# Altium schematic symbol library NXP Semiconductors Cortex-M3.SchLib: 52 symbols (part 6 of 7)
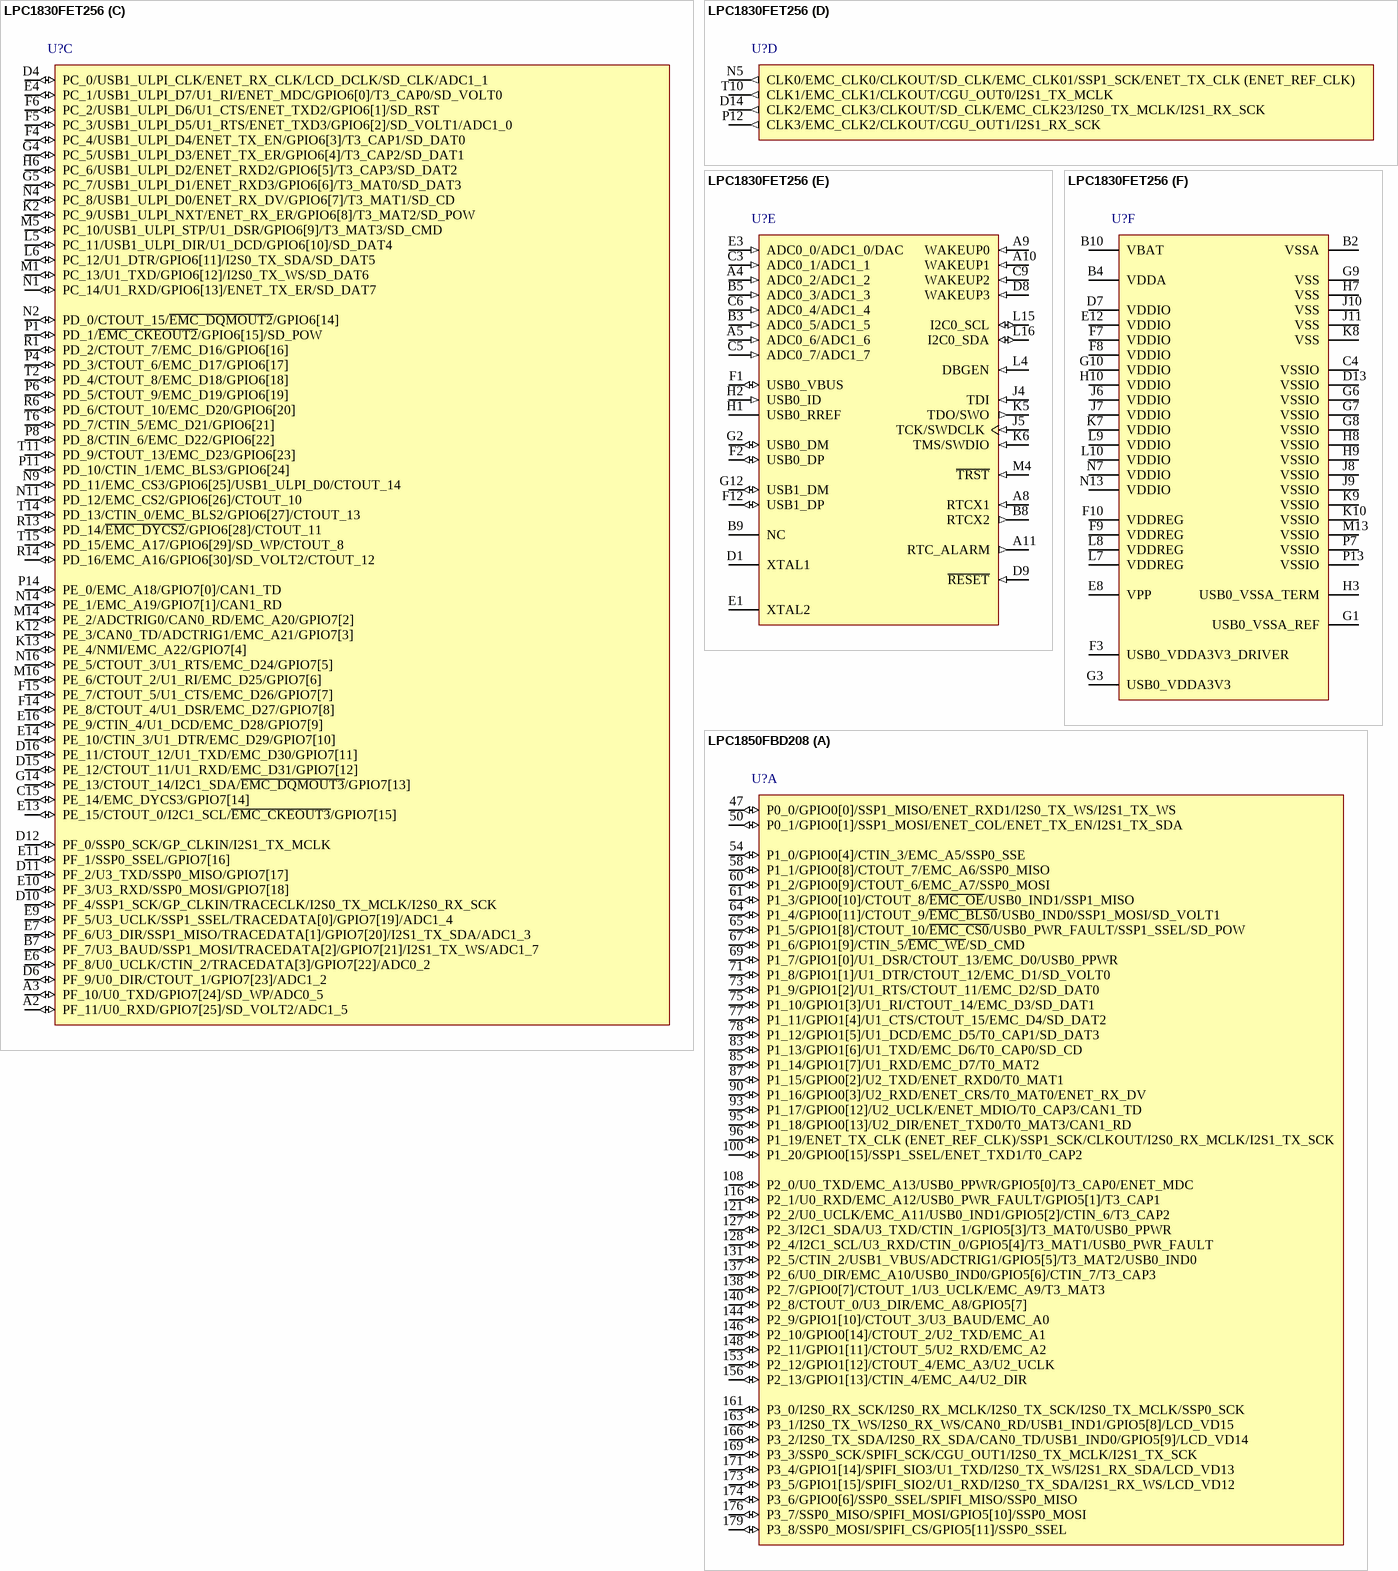
[diagram p51: symbols LPC1830FET256 to LPC1850FBD208]

## LPC1830FET256
designator U?
32-bit ARM Cortex-M3 MCU, 200 kB SRAM, 2 HS USB, on-chip PHY, Ethernet, CAN, AES, SPIFI, SCT, 256-Pin LBGA; PartNumber: LPC1830FET256; fmax: 180 MHz; SRAM: 200 kB; GPIOs: 164; USB: 2; UART: 4; I2C: 1; PLL: Y; ADC channels: 8; VDD (min): 2.2 V; VDD (typ): 3.3 V; VDD (max): 3.6 V; DatasheetVersion: Rev. 3.1, Dec-2011; PackageVersion: Aug-2005; PackageReference: SOT740-2; PackageDescription: LBGA256: Plastic Low Profile Ball Grid Array Package; 256 Balls; Body 17 x 17 x 1 mm; CAN: 2; SPI: 1; PWM: 1; Timers: 4; Code_JEDEC: MO-192; ComponentLink1Description: Manufacturer URL; ComponentLink1URL: http://www.nxp.com/; ComponentLink2Description: Datasheet; ComponentLink2URL: http://www.nxp.com/documents/data_sheet/LPC1850_30_20_10.pdf
footprint SOT740-2 (BGA, 256-Leads, Body 17x17mm, Pitch 1mm)
part A pins: A1 P4_1/GPIO2[1]/CTOUT_1/LCD_VD0/LCD_VD19/U3_TXD/ENET_COL/ADC0_1 (io), A15 P3_4/GPIO1[14]/SPIFI_SIO3/U1_TXD/I2S0_TX_WS/I2S1_RX_SDA/LCD_VD13 (io), B1 P4_4/GPIO2[4]/CTOUT_2/LCD_VD1/LCD_VD20/U3_DIR/DAC (io), B13 P3_6/GPIO0[6]/SSP0_SSEL/SPIFI_MISO/SSP0_MISO (io), B14 P3_3/SSP0_SCK/SPIFI_SCK/CGU_OUT1/I2S0_TX_MCLK/I2S1_TX_SCK (io), C1 P4_6/GPIO2[6]/CTOUT_4/LCD_ENAB/LCDM (io), C2 P4_3/GPIO2[3]/CTOUT_3/LCD_VD2/LCD_VD21/U3_BAUD/ADC0_0 (io), C10 P3_8/SSP0_MOSI/SPIFI_CS/GPIO5[11]/SSP0_SSEL (io), C11 P3_7/SSP0_MISO/SPIFI_MOSI/GPIO5[10]/SSP0_MOSI (io), C12 P3_5/GPIO1[15]/SPIFI_SIO2/U1_RXD/I2S0_TX_SDA/I2S1_RX_WS/LCD_VD12 (io), C16 P2_13/GPIO1[13]/CTIN_4/EMC_A4/U2_DIR (io), D2 P4_5/GPIO2[5]/CTOUT_5/LCD_FP (io), D3 P4_2/GPIO2[2]/CTOUT_0/LCD_VD3/LCD_VD12/U3_RXD (io), D5 P4_0/GPIO2[0]/MCOA0/NMI/LCD_VD13/U3_UCLK (io), E2 P4_8/CTIN_5/LCD_VD9/GPIO5[12]/LCD_VD22/CAN1_TD (io), E15 P2_12/GPIO1[12]/CTOUT_4/EMC_A3/U2_UCLK (io), F11 P3_2/I2S0_TX_SDA/I2S0_RX_SDA/CAN0_TD/USB1_IND0/GPIO5[9]/LCD_VD14 (io), F13 P3_0/I2S0_RX_SCK/I2S0_RX_MCLK/I2S0_TX_SCK/I2S0_TX_MCLK/SSP0_SCK (io), F16 P2_11/GPIO1[11]/CTOUT_5/U2_RXD/EMC_A2 (io), G11 P3_1/I2S0_TX_WS/I2S0_RX_WS/CAN0_RD/USB1_IND1/GPIO5[8]/LCD_VD15 (io), G16 P2_10/GPIO0[14]/CTOUT_2/U2_TXD/EMC_A1 (io), H4 P4_7/LCD_DCLK/GP_CLKIN/I2S1_TX_SCK/I2S0_TX_SCK (io), H14 P2_7/GPIO0[7]/CTOUT_1/U3_UCLK/EMC_A9/T3_MAT3 (io), H16 P2_9/GPIO1[10]/CTOUT_3/U3_BAUD/EMC_A0 (io), J12 P2_3/I2C1_SDA/U3_TXD/CTIN_1/GPIO5[3]/T3_MAT0/USB0_PPWR (io), J16 P2_8/CTOUT_0/U3_DIR/EMC_A8/GPIO5[7] (io), K11 P2_4/I2C1_SCL/U3_RXD/CTIN_0/GPIO5[4]/T3_MAT1/USB0_PWR_FAULT (io), K14 P2_5/CTIN_2/USB1_VBUS/ADCTRIG1/GPIO5[5]/T3_MAT2/USB0_IND0 (io), K16 P2_6/U0_DIR/EMC_A10/USB0_IND0/GPIO5[6]/CTIN_7/T3_CAP3 (io), L2 P4_9/CTIN_6/LCD_VD11/GPIO5[13]/LCD_VD15/CAN1_RD (io), L3 P0_0/GPIO0[0]/SSP1_MISO/ENET_RXD1/I2S0_TX_WS/I2S1_TX_WS (io), M2 P0_1/GPIO0[1]/SSP1_MOSI/ENET_COL/ENET_TX_EN/I2S1_TX_SDA (io), M3 P4_10/CTIN_2/LCD_VD10/GPIO5[14]/LCD_VD14 (io), M7 P1_16/GPIO0[3]/U2_RXD/ENET_CRS/T0_MAT0/ENET_RX_DV (io), M8 P1_17/GPIO0[12]/U2_UCLK/ENET_MDIO/T0_CAP3/CAN1_TD (io), M10 P1_20/GPIO0[15]/SSP1_SSEL/ENET_TXD1/T0_CAP2 (io), M11 P1_19/ENET_TX_CLK (ENET_REF_CLK)/SSP1_SCK/CLKOUT/I2S0_RX_MCLK/I2S1_TX_SCK (io), M15 P2_2/U0_UCLK/EMC_A11/USB0_IND1/GPIO5[2]/CTIN_6/T3_CAP2 (io), N12 P1_18/GPIO0[13]/U2_DIR/ENET_TXD0/T0_MAT3/CAN1_RD (io), N15 P2_1/U0_RXD/EMC_A12/USB0_PWR_FAULT/GPIO5[1]/T3_CAP1 (io), P2 P1_0/GPIO0[4]/CTIN_3/EMC_A5/SSP0_SSE (io), P5 P1_3/GPIO0[10]/CTOUT_8/~{EMC_OE}/USB0_IND1/SSP1_MISO (io), R2 P1_1/GPIO0[8]/CTOUT_7/EMC_A6/SSP0_MISO (io), R3 P1_2/GPIO0[9]/CTOUT_6/EMC_A7/SSP0_MOSI (io), R5 P1_5/GPIO1[8]/CTOUT_10/~{EMC_CS0}/USB0_PWR_FAULT/SSP1_SSEL/SD_POW (io), R7 P1_8/GPIO1[1]/U1_DTR/CTOUT_12/EMC_D1/SD_VOLT0 (io), R8 P1_10/GPIO1[3]/U1_RI/CTOUT_14/EMC_D3/SD_DAT1 (io), R9 P1_12/GPIO1[5]/U1_DCD/EMC_D5/T0_CAP1/SD_DAT3 (io), R10 P1_13/GPIO1[6]/U1_TXD/EMC_D6/T0_CAP0/SD_CD (io), R11 P1_14/GPIO1[7]/U1_RXD/EMC_D7/T0_MAT2 (io), T3 P1_4/GPIO0[11]/CTOUT_9/~{EMC_BLS0}/USB0_IND0/SSP1_MOSI/SD_VOLT1 (io), T4 P1_6/GPIO1[9]/CTIN_5/~{EMC_WE}/SD_CMD (io), T5 P1_7/GPIO1[0]/U1_DSR/CTOUT_13/EMC_D0/USB0_PPWR (io), T7 P1_9/GPIO1[2]/U1_RTS/CTOUT_11/EMC_D2/SD_DAT0 (io), T9 P1_11/GPIO1[4]/U1_CTS/CTOUT_15/EMC_D4/SD_DAT2 (io), T12 P1_15/GPIO0[2]/U2_TXD/ENET_RXD0/T0_MAT1 (io), T16 P2_0/U0_TXD/EMC_A13/USB0_PPWR/GPIO5[0]/T3_CAP0/ENET_MDC (io)
part B pins: A6 PB_6/USB1_ULPI_D3/LCD_VD13/GPIO5[26]/CTIN_6/LCD_VD19/ADC0_6 (io), A7 P7_5/GPIO3[13]/CTOUT_12/LCD_VD8/LCD_VD23/TRACEDATA[1]/ADC0_3 (io), A12 PB_5/USB1_ULPI_D4/LCD_VD14/GPIO5[25]/CTIN_7/LCD_PWR (io), A13 PB_3/USB1_ULPI_D6/LCD_VD20/GPIO5[23]/CTOUT_8 (io), A14 PB_1/USB1_ULPI_DIR/LCD_VD22/GPIO5[21]/CTOUT_6 (io), A16 P7_2/GPIO3[10]/CTIN_4/I2S0_TX_SDA/LCD_VD18/LCD_VD6/U2_RXD (io), B6 P7_7/GPIO3[15]/CTOUT_8/LCD_PWR/TRACEDATA[3]/ENET_MDC/ADC1_6 (io), B11 PB_4/USB1_ULPI_D5/LCD_VD15/GPIO5[24]/CTIN_5 (io), B12 PB_2/USB1_ULPI_D7/LCD_VD21/GPIO5[22]/CTOUT_7 (io), B15 PB_0/CTOUT_10/LCD_VD23/GPIO5[20] (io), B16 P7_0/GPIO3[8]/CTOUT_14/LCD_LE (io), C7 P7_6/GPIO3[14]/CTOUT_11/LCD_LP/TRACEDATA[2] (io), C8 P7_4/GPIO3[12]/CTOUT_13/LCD_VD16/LCD_VD4/TRACEDATA[0]/ADC0_4 (io), C13 P7_3/GPIO3[11]/CTIN_3/LCD_VD17/LCD_VD5 (io), C14 P7_1/GPIO3[9]/CTOUT_15/I2S0_TX_WS/LCD_VD19/LCD_VD7/U2_TXD (io), E5 P8_0/GPIO4[0]/USB0_PWR_FAULT/MCI2/T0_MAT0 (io), G13 PA_4/CTOUT_9/EMC_A23/GPIO5[19] (io), G15 P6_12/GPIO2[8]/CTOUT_7/~{EMC_DQMOUT0} (io), H5 P8_1/GPIO4[1]/USB0_IND1/MCI1/T0_MAT1 (io), H11 PA_3/GPIO4[10]/QEI_PHA (io), H12 P6_11/GPIO3[7]/~{EMC_CKEOUT0}/T2_MAT3 (io), H13 P6_8/EMC_A14/USB0_IND0/GPIO5[16]/T2_MAT1 (io), H15 P6_10/GPIO3[6]/MCABORT/~{EMC_DQMOUT1} (io), J1 P8_5/GPIO4[5]/USB1_ULPI_D0/LCD_VD6/LCD_VD8/T0_CAP1 (io), J2 P8_4/GPIO4[4]/USB1_ULPI_D1/LCD_VD7/LCD_VD16/T0_CAP0 (io), J3 P8_3/GPIO4[3]/USB1_ULPI_D2/LCD_VD12/LCD_VD19/T0_MAT3 (io), J13 P6_7/EMC_A15/USB0_IND1/GPIO5[15]/T2_MAT0 (io), J14 PA_1/GPIO4[8]/QEI_IDX/U2_TXD (io), J15 P6_9/GPIO3[5]/EMC_DYCS0/T2_MAT2 (io), K1 P8_7/GPIO4[7]/USB1_ULPI_STP/LCD_VD4/LCD_PWR/T0_CAP3 (io), K3 P8_6/GPIO4[6]/USB1_ULPI_NXT/LCD_VD5/LCD_LP/T0_CAP2 (io), K4 P8_2/GPIO4[2]/USB0_IND0/MCI0/T0_MAT2 (io), K15 PA_2/GPIO4[9]/QEI_PHB/U2_RXD (io), L1 P8_8/USB1_ULPI_CLK/CGU_OUT0/I2S1_TX_MCLK (io), L11 P9_6/GPIO4[11]/MCOB1/USB1_PWR_FAULT/ENET_COL/U0_RXD (io), L12 PA_0/I2S1_RX_MCLK/CGU_OUT1 (io), L13 P6_2/GPIO3[1]/~{EMC_CKEOUT1}/U0_DIR/I2S0_RX_SDA/T2_CAP1 (io), L14 P6_6/GPIO0[5]/EMC_BLS1/USB0_PWR_FAULT/T2_CAP3 (io), M6 P9_3/GPIO4[15]/MCOA0/USB1_IND1/ENET_RXD2/U3_TXD (io), M9 P9_5/MCOA1/USB1_PPWR/GPIO5[18]/ENET_TXD3/U0_TXD (io), M12 P6_0/I2S0_RX_MCLK/I2S0_RX_SCK (io), N3 P5_0/GPIO2[9]/MCOB2/EMC_D12/U1_DSR/T1_CAP0/T1_CAP0 (io), N6 P9_1/GPIO4[13]/MCOA2/I2S0_TX_WS/ENET_RX_ER/SSP0_MISO (io), N8 P9_2/GPIO4[14]/MCOB2/I2S0_TX_SDA/ENET_RXD3/SSP0_MOSI (io), N10 P9_4/MCOB0/USB1_IND0/GPIO5[17]/ENET_TXD2/U3_RXD (io), P3 P5_1/GPIO2[10]/MCI2/EMC_D13/U1_DTR/T1_CAP1 (io), P9 P5_4/GPIO2[13]/MCOB0/EMC_D8/U1_CTS/T1_MAT0 (io), P10 P5_5/GPIO2[14]/MCOA1/EMC_D9/U1_DCD/T1_MAT1 (io), P15 P6_3/GPIO3[2]/USB0_PPWR/EMC_CS1/T2_CAP2 (io), P16 P6_5/GPIO3[4]/CTOUT_6/U0_RXD/~{EMC_RAS} (io), R4 P5_2/GPIO2[11]/MCI1/EMC_D14/U1_RTS/T1_CAP2 (io), R12 P5_7/GPIO2[7]/MCOA2/EMC_D11/U1_RXD/T1_MAT3 (io), R15 P6_1/GPIO3[0]/~{EMC_DYCS1}/U0_UCLK/I2S0_RX_WS/T2_CAP0 (io), R16 P6_4/GPIO3[3]/CTIN_6/U0_TXD/~{EMC_CAS} (io), T1 P9_0/GPIO4[12]/MCABORT/ENET_CRS/SSP0_SSEL (io), T8 P5_3/GPIO2[12]/MCI0/EMC_D15/U1_RI/T1_CAP3 (io), T13 P5_6/GPIO2[15]/MCOB1/EMC_D10/U1_TXD/T1_MAT2 (io)
part C pins: A2 PF_11/U0_RXD/GPIO7[25]/SD_VOLT2/ADC1_5 (io), A3 PF_10/U0_TXD/GPIO7[24]/SD_WP/ADC0_5 (io), B7 PF_7/U3_BAUD/SSP1_MOSI/TRACEDATA[2]/GPIO7[21]/I2S1_TX_WS/ADC1_7 (io), C15 PE_14/EMC_DYCS3/GPIO7[14] (io), D4 PC_0/USB1_ULPI_CLK/ENET_RX_CLK/LCD_DCLK/SD_CLK/ADC1_1 (io), D6 PF_9/U0_DIR/CTOUT_1/GPIO7[23]/ADC1_2 (io), D10 PF_4/SSP1_SCK/GP_CLKIN/TRACECLK/I2S0_TX_MCLK/I2S0_RX_SCK (io), D11 PF_2/U3_TXD/SSP0_MISO/GPIO7[17] (io), D12 PF_0/SSP0_SCK/GP_CLKIN/I2S1_TX_MCLK (io), D15 PE_12/CTOUT_11/U1_RXD/EMC_D31/GPIO7[12] (io), D16 PE_11/CTOUT_12/U1_TXD/EMC_D30/GPIO7[11] (io), E4 PC_1/USB1_ULPI_D7/U1_RI/ENET_MDC/GPIO6[0]/T3_CAP0/SD_VOLT0 (io), E6 PF_8/U0_UCLK/CTIN_2/TRACEDATA[3]/GPIO7[22]/ADC0_2 (io), E7 PF_6/U3_DIR/SSP1_MISO/TRACEDATA[1]/GPIO7[20]/I2S1_TX_SDA/ADC1_3 (io), E9 PF_5/U3_UCLK/SSP1_SSEL/TRACEDATA[0]/GPIO7[19]/ADC1_4 (io), E10 PF_3/U3_RXD/SSP0_MOSI/GPIO7[18] (io), E11 PF_1/SSP0_SSEL/GPIO7[16] (io), E13 PE_15/CTOUT_0/I2C1_SCL/~{EMC_CKEOUT3}/GPIO7[15] (io), E14 PE_10/CTIN_3/U1_DTR/EMC_D29/GPIO7[10] (io), E16 PE_9/CTIN_4/U1_DCD/EMC_D28/GPIO7[9] (io), F4 PC_4/USB1_ULPI_D4/ENET_TX_EN/GPIO6[3]/T3_CAP1/SD_DAT0 (io), F5 PC_3/USB1_ULPI_D5/U1_RTS/ENET_TXD3/GPIO6[2]/SD_VOLT1/ADC1_0 (io), F6 PC_2/USB1_ULPI_D6/U1_CTS/ENET_TXD2/GPIO6[1]/SD_RST (io), F14 PE_8/CTOUT_4/U1_DSR/EMC_D27/GPIO7[8] (io), F15 PE_7/CTOUT_5/U1_CTS/EMC_D26/GPIO7[7] (io), G4 PC_5/USB1_ULPI_D3/ENET_TX_ER/GPIO6[4]/T3_CAP2/SD_DAT1 (io), G5 PC_7/USB1_ULPI_D1/ENET_RXD3/GPIO6[6]/T3_MAT0/SD_DAT3 (io), G14 PE_13/CTOUT_14/I2C1_SDA/~{EMC_DQMOUT3}/GPIO7[13] (io), H6 PC_6/USB1_ULPI_D2/ENET_RXD2/GPIO6[5]/T3_CAP3/SD_DAT2 (io), K2 PC_9/USB1_ULPI_NXT/ENET_RX_ER/GPIO6[8]/T3_MAT2/SD_POW (io), K12 PE_3/CAN0_TD/ADCTRIG1/EMC_A21/GPIO7[3] (io), K13 PE_4/NMI/EMC_A22/GPIO7[4] (io), L5 PC_11/USB1_ULPI_DIR/U1_DCD/GPIO6[10]/SD_DAT4 (io), L6 PC_12/U1_DTR/GPIO6[11]/I2S0_TX_SDA/SD_DAT5 (io), M1 PC_13/U1_TXD/GPIO6[12]/I2S0_TX_WS/SD_DAT6 (io), M5 PC_10/USB1_ULPI_STP/U1_DSR/GPIO6[9]/T3_MAT3/SD_CMD (io), M14 PE_2/ADCTRIG0/CAN0_RD/EMC_A20/GPIO7[2] (io), M16 PE_6/CTOUT_2/U1_RI/EMC_D25/GPIO7[6] (io), N1 PC_14/U1_RXD/GPIO6[13]/ENET_TX_ER/SD_DAT7 (io), N2 PD_0/CTOUT_15/~{EMC_DQMOUT2}/GPIO6[14] (io), N4 PC_8/USB1_ULPI_D0/ENET_RX_DV/GPIO6[7]/T3_MAT1/SD_CD (io), N9 PD_11/EMC_CS3/GPIO6[25]/USB1_ULPI_D0/CTOUT_14 (io), N11 PD_12/EMC_CS2/GPIO6[26]/CTOUT_10 (io), N14 PE_1/EMC_A19/GPIO7[1]/CAN1_RD (io), N16 PE_5/CTOUT_3/U1_RTS/EMC_D24/GPIO7[5] (io), P1 PD_1/~{EMC_CKEOUT2}/GPIO6[15]/SD_POW (io), P4 PD_3/CTOUT_6/EMC_D17/GPIO6[17] (io), P6 PD_5/CTOUT_9/EMC_D19/GPIO6[19] (io), P8 PD_8/CTIN_6/EMC_D22/GPIO6[22] (io), P11 PD_10/CTIN_1/EMC_BLS3/GPIO6[24] (io), P14 PE_0/EMC_A18/GPIO7[0]/CAN1_TD (io), R1 PD_2/CTOUT_7/EMC_D16/GPIO6[16] (io), R6 PD_6/CTOUT_10/EMC_D20/GPIO6[20] (io), R13 PD_14/~{EMC_DYCS2}/GPIO6[28]/CTOUT_11 (io), R14 PD_16/EMC_A16/GPIO6[30]/SD_VOLT2/CTOUT_12 (io), T2 PD_4/CTOUT_8/EMC_D18/GPIO6[18] (io), T6 PD_7/CTIN_5/EMC_D21/GPIO6[21] (io), T11 PD_9/CTOUT_13/EMC_D23/GPIO6[23] (io), T14 PD_13/CTIN_0/EMC_BLS2/GPIO6[27]/CTOUT_13 (io), T15 PD_15/EMC_A17/GPIO6[29]/SD_WP/CTOUT_8 (io)
part D pins: D14 CLK2/EMC_CLK3/CLKOUT/SD_CLK/EMC_CLK23/I2S0_TX_MCLK/I2S1_RX_SCK (out), N5 CLK0/EMC_CLK0/CLKOUT/SD_CLK/EMC_CLK01/SSP1_SCK/ENET_TX_CLK (ENET_REF_CLK) (out), P12 CLK3/EMC_CLK2/CLKOUT/CGU_OUT1/I2S1_RX_SCK (out), T10 CLK1/EMC_CLK1/CLKOUT/CGU_OUT0/I2S1_TX_MCLK (out)
part E pins: A4 ADC0_2/ADC1_2 (in), A5 ADC0_6/ADC1_6 (in), A8 RTCX1 (in), A9 WAKEUP0 (in), A10 WAKEUP1 (in), A11 RTC_ALARM (out), B3 ADC0_5/ADC1_5 (in), B5 ADC0_3/ADC1_3 (in), B8 RTCX2 (out), B9 NC, C3 ADC0_1/ADC1_1 (in), C5 ADC0_7/ADC1_7 (in), C6 ADC0_4/ADC1_4 (in), C9 WAKEUP2 (in), D1 XTAL1, D8 WAKEUP3 (in), D9 ~{RESET} (in), E1 XTAL2, E3 ADC0_0/ADC1_0/DAC (in), F1 USB0_VBUS (io), F2 USB0_DP (io), F12 USB1_DP (io), G2 USB0_DM (io), G12 USB1_DM (io), H1 USB0_RREF, H2 USB0_ID (in), J4 TDI (in), J5 TCK/SWDCLK (in), K5 TDO/SWO (out), K6 TMS/SWDIO (in), L4 DBGEN (in), L15 I2C0_SCL (io), L16 I2C0_SDA (io), M4 ~{TRST} (in)
part F pins: B2 VSSA (power), B4 VDDA (power), B10 VBAT (power), C4 VSSIO (power), D7 VDDIO (power), D13 VSSIO (power), E8 VPP (power), E12 VDDIO (power), F3 USB0_VDDA3V3_DRIVER (power), F7 VDDIO (power), F8 VDDIO (power), F9 VDDREG (power), F10 VDDREG (power), G1 USB0_VSSA_REF (power), G3 USB0_VDDA3V3 (power), G6 VSSIO (power), G7 VSSIO (power), G8 VSSIO (power), G9 VSS (power), G10 VDDIO (power), H3 USB0_VSSA_TERM (power), H7 VSS (power), H8 VSSIO (power), H9 VSSIO (power), H10 VDDIO (power), J6 VDDIO (power), J7 VDDIO (power), J8 VSSIO (power), J9 VSSIO (power), J10 VSS (power), J11 VSS (power), K7 VDDIO (power), K8 VSS (power), K9 VSSIO (power), K10 VSSIO (power), L7 VDDREG (power), L8 VDDREG (power), L9 VDDIO (power), L10 VDDIO (power), M13 VSSIO (power), N7 VDDIO (power), N13 VDDIO (power), P7 VSSIO (power), P13 VSSIO (power)

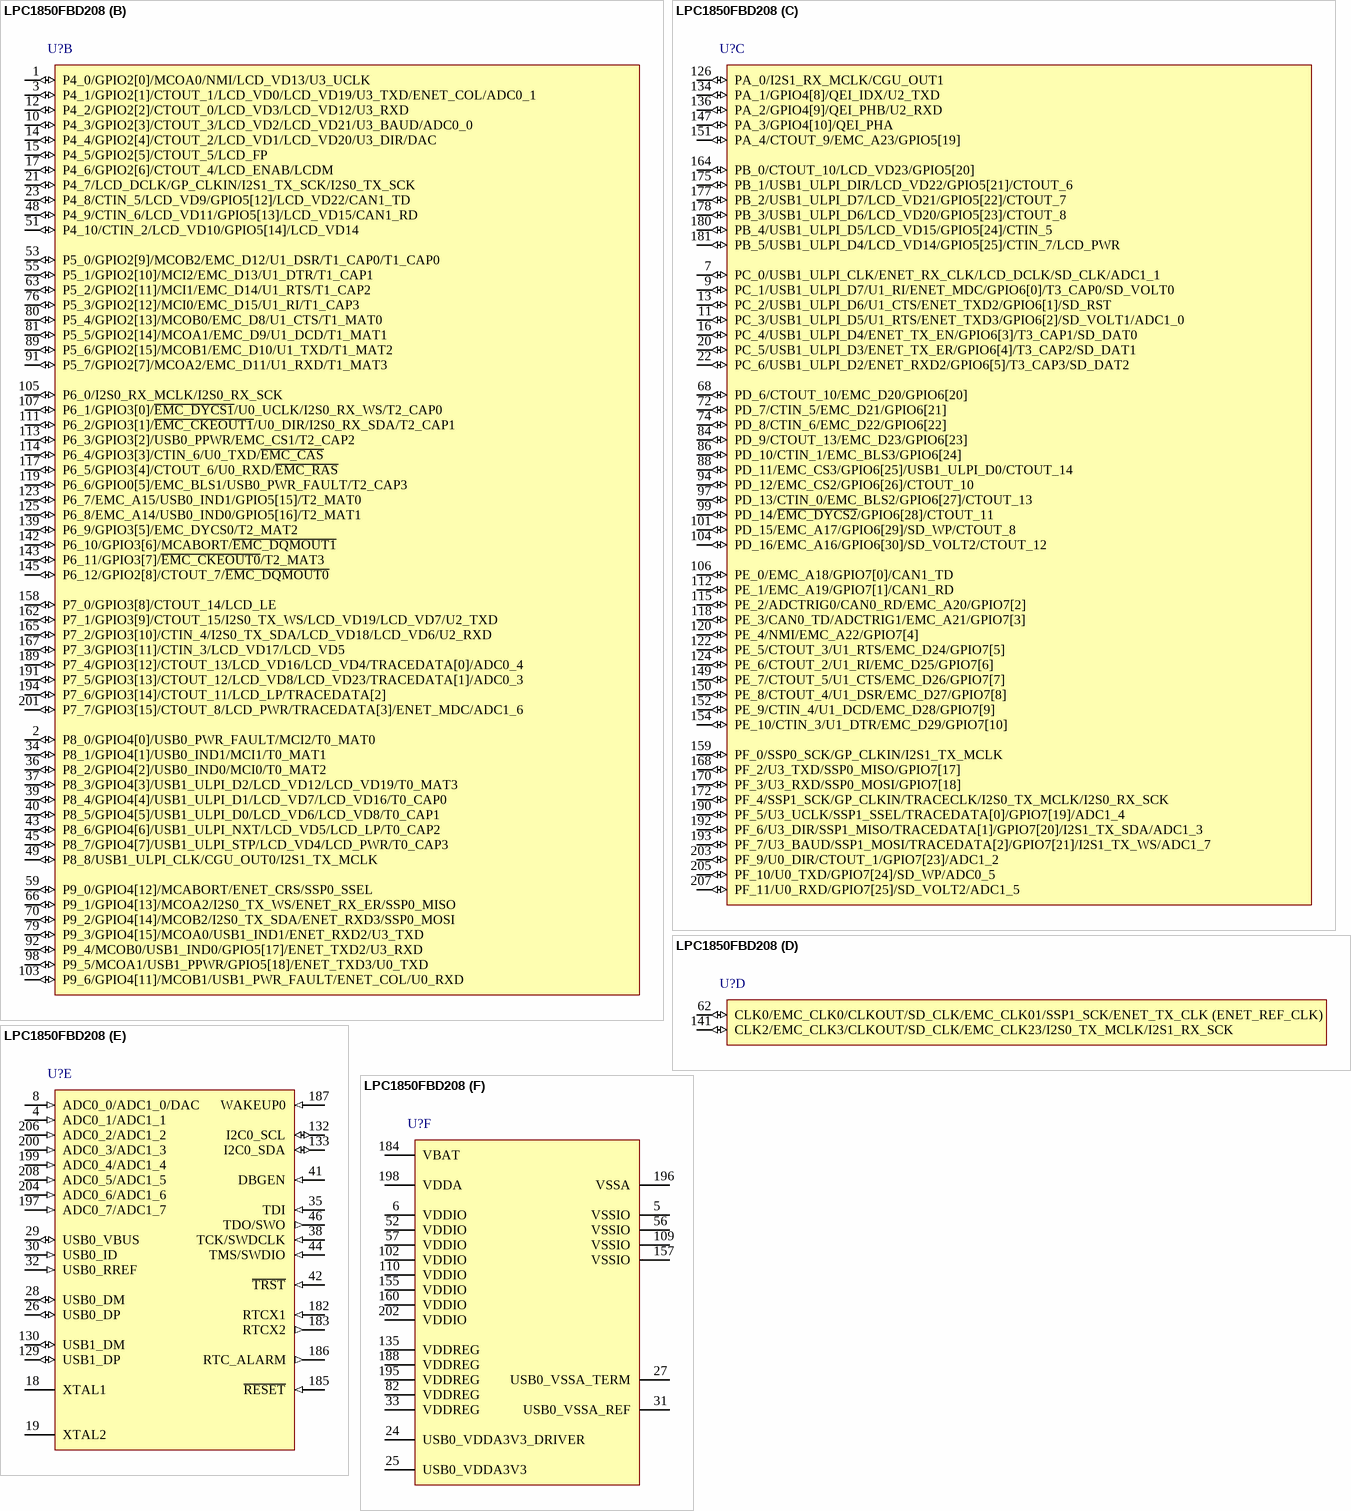
[diagram p36: symbol LPC1850FBD208]

## LPC1850FBD208
designator U?
32-bit ARM Cortex-M3 MCU, 200 kB SRAM, 2 HS USB, on-chip PHY, Ethernet, LCD, CAN, AES, SPIFI, SCT, 208-Pin LQFP; PartNumber: LPC1850FBD208; fmax: 180 MHz; SRAM: 200 kB; GPIOs: 142; USB: 2; UART: 4; I2C: 1; PLL: Y; ADC channels: 8; VDD (min): 2.2 V; VDD (typ): 3.3 V; VDD (max): 3.6 V; Code_IEC: 136E30; DatasheetVersion: Rev. 3.1, Dec-2011; PackageVersion: Feb-2003; PackageReference: SOT459-1; PackageDescription: LQFP208; Plastic Low Profile Quad Flat Package; 208 Leads; Body 28 x 28 x 1.4 mm; CAN: 2; SPI: 1; PWM: 1; Timers: 4; Code_JEDEC: MS-026; ComponentLink1Description: Manufacturer URL; ComponentLink1URL: http://www.nxp.com/; ComponentLink2Description: Datasheet; ComponentLink2URL: http://www.nxp.com/documents/data_sheet/LPC1850_30_20_10.pdf
footprint SOT459-1_V (Thin QFP, 208-Leads, Body 28x28mm, Pitch 0.5mm, NXP Recommended)
part A pins: 47 P0_0/GPIO0[0]/SSP1_MISO/ENET_RXD1/I2S0_TX_WS/I2S1_TX_WS (io), 50 P0_1/GPIO0[1]/SSP1_MOSI/ENET_COL/ENET_TX_EN/I2S1_TX_SDA (io), 54 P1_0/GPIO0[4]/CTIN_3/EMC_A5/SSP0_SSE (io), 58 P1_1/GPIO0[8]/CTOUT_7/EMC_A6/SSP0_MISO (io), 60 P1_2/GPIO0[9]/CTOUT_6/EMC_A7/SSP0_MOSI (io), 61 P1_3/GPIO0[10]/CTOUT_8/~{EMC_OE}/USB0_IND1/SSP1_MISO (io), 64 P1_4/GPIO0[11]/CTOUT_9/~{EMC_BLS0}/USB0_IND0/SSP1_MOSI/SD_VOLT1 (io), 65 P1_5/GPIO1[8]/CTOUT_10/~{EMC_CS0}/USB0_PWR_FAULT/SSP1_SSEL/SD_POW (io), 67 P1_6/GPIO1[9]/CTIN_5/~{EMC_WE}/SD_CMD (io), 69 P1_7/GPIO1[0]/U1_DSR/CTOUT_13/EMC_D0/USB0_PPWR (io), 71 P1_8/GPIO1[1]/U1_DTR/CTOUT_12/EMC_D1/SD_VOLT0 (io), 73 P1_9/GPIO1[2]/U1_RTS/CTOUT_11/EMC_D2/SD_DAT0 (io), 75 P1_10/GPIO1[3]/U1_RI/CTOUT_14/EMC_D3/SD_DAT1 (io), 77 P1_11/GPIO1[4]/U1_CTS/CTOUT_15/EMC_D4/SD_DAT2 (io), 78 P1_12/GPIO1[5]/U1_DCD/EMC_D5/T0_CAP1/SD_DAT3 (io), 83 P1_13/GPIO1[6]/U1_TXD/EMC_D6/T0_CAP0/SD_CD (io), 85 P1_14/GPIO1[7]/U1_RXD/EMC_D7/T0_MAT2 (io), 87 P1_15/GPIO0[2]/U2_TXD/ENET_RXD0/T0_MAT1 (io), 90 P1_16/GPIO0[3]/U2_RXD/ENET_CRS/T0_MAT0/ENET_RX_DV (io), 93 P1_17/GPIO0[12]/U2_UCLK/ENET_MDIO/T0_CAP3/CAN1_TD (io), 95 P1_18/GPIO0[13]/U2_DIR/ENET_TXD0/T0_MAT3/CAN1_RD (io), 96 P1_19/ENET_TX_CLK (ENET_REF_CLK)/SSP1_SCK/CLKOUT/I2S0_RX_MCLK/I2S1_TX_SCK (io), 100 P1_20/GPIO0[15]/SSP1_SSEL/ENET_TXD1/T0_CAP2 (io), 108 P2_0/U0_TXD/EMC_A13/USB0_PPWR/GPIO5[0]/T3_CAP0/ENET_MDC (io), 116 P2_1/U0_RXD/EMC_A12/USB0_PWR_FAULT/GPIO5[1]/T3_CAP1 (io), 121 P2_2/U0_UCLK/EMC_A11/USB0_IND1/GPIO5[2]/CTIN_6/T3_CAP2 (io), 127 P2_3/I2C1_SDA/U3_TXD/CTIN_1/GPIO5[3]/T3_MAT0/USB0_PPWR (io), 128 P2_4/I2C1_SCL/U3_RXD/CTIN_0/GPIO5[4]/T3_MAT1/USB0_PWR_FAULT (io), 131 P2_5/CTIN_2/USB1_VBUS/ADCTRIG1/GPIO5[5]/T3_MAT2/USB0_IND0 (io), 137 P2_6/U0_DIR/EMC_A10/USB0_IND0/GPIO5[6]/CTIN_7/T3_CAP3 (io), 138 P2_7/GPIO0[7]/CTOUT_1/U3_UCLK/EMC_A9/T3_MAT3 (io), 140 P2_8/CTOUT_0/U3_DIR/EMC_A8/GPIO5[7] (io), 144 P2_9/GPIO1[10]/CTOUT_3/U3_BAUD/EMC_A0 (io), 146 P2_10/GPIO0[14]/CTOUT_2/U2_TXD/EMC_A1 (io), 148 P2_11/GPIO1[11]/CTOUT_5/U2_RXD/EMC_A2 (io), 153 P2_12/GPIO1[12]/CTOUT_4/EMC_A3/U2_UCLK (io), 156 P2_13/GPIO1[13]/CTIN_4/EMC_A4/U2_DIR (io), 161 P3_0/I2S0_RX_SCK/I2S0_RX_MCLK/I2S0_TX_SCK/I2S0_TX_MCLK/SSP0_SCK (io), 163 P3_1/I2S0_TX_WS/I2S0_RX_WS/CAN0_RD/USB1_IND1/GPIO5[8]/LCD_VD15 (io), 166 P3_2/I2S0_TX_SDA/I2S0_RX_SDA/CAN0_TD/USB1_IND0/GPIO5[9]/LCD_VD14 (io), 169 P3_3/SSP0_SCK/SPIFI_SCK/CGU_OUT1/I2S0_TX_MCLK/I2S1_TX_SCK (io), 171 P3_4/GPIO1[14]/SPIFI_SIO3/U1_TXD/I2S0_TX_WS/I2S1_RX_SDA/LCD_VD13 (io), 173 P3_5/GPIO1[15]/SPIFI_SIO2/U1_RXD/I2S0_TX_SDA/I2S1_RX_WS/LCD_VD12 (io), 174 P3_6/GPIO0[6]/SSP0_SSEL/SPIFI_MISO/SSP0_MISO (io), 176 P3_7/SSP0_MISO/SPIFI_MOSI/GPIO5[10]/SSP0_MOSI (io), 179 P3_8/SSP0_MOSI/SPIFI_CS/GPIO5[11]/SSP0_SSEL (io)
part B pins: 1 P4_0/GPIO2[0]/MCOA0/NMI/LCD_VD13/U3_UCLK (io), 2 P8_0/GPIO4[0]/USB0_PWR_FAULT/MCI2/T0_MAT0 (io), 3 P4_1/GPIO2[1]/CTOUT_1/LCD_VD0/LCD_VD19/U3_TXD/ENET_COL/ADC0_1 (io), 10 P4_3/GPIO2[3]/CTOUT_3/LCD_VD2/LCD_VD21/U3_BAUD/ADC0_0 (io), 12 P4_2/GPIO2[2]/CTOUT_0/LCD_VD3/LCD_VD12/U3_RXD (io), 14 P4_4/GPIO2[4]/CTOUT_2/LCD_VD1/LCD_VD20/U3_DIR/DAC (io), 15 P4_5/GPIO2[5]/CTOUT_5/LCD_FP (io), 17 P4_6/GPIO2[6]/CTOUT_4/LCD_ENAB/LCDM (io), 21 P4_7/LCD_DCLK/GP_CLKIN/I2S1_TX_SCK/I2S0_TX_SCK (io), 23 P4_8/CTIN_5/LCD_VD9/GPIO5[12]/LCD_VD22/CAN1_TD (io), 34 P8_1/GPIO4[1]/USB0_IND1/MCI1/T0_MAT1 (io), 36 P8_2/GPIO4[2]/USB0_IND0/MCI0/T0_MAT2 (io), 37 P8_3/GPIO4[3]/USB1_ULPI_D2/LCD_VD12/LCD_VD19/T0_MAT3 (io), 39 P8_4/GPIO4[4]/USB1_ULPI_D1/LCD_VD7/LCD_VD16/T0_CAP0 (io), 40 P8_5/GPIO4[5]/USB1_ULPI_D0/LCD_VD6/LCD_VD8/T0_CAP1 (io), 43 P8_6/GPIO4[6]/USB1_ULPI_NXT/LCD_VD5/LCD_LP/T0_CAP2 (io), 45 P8_7/GPIO4[7]/USB1_ULPI_STP/LCD_VD4/LCD_PWR/T0_CAP3 (io), 48 P4_9/CTIN_6/LCD_VD11/GPIO5[13]/LCD_VD15/CAN1_RD (io), 49 P8_8/USB1_ULPI_CLK/CGU_OUT0/I2S1_TX_MCLK (io), 51 P4_10/CTIN_2/LCD_VD10/GPIO5[14]/LCD_VD14 (io), 53 P5_0/GPIO2[9]/MCOB2/EMC_D12/U1_DSR/T1_CAP0/T1_CAP0 (io), 55 P5_1/GPIO2[10]/MCI2/EMC_D13/U1_DTR/T1_CAP1 (io), 59 P9_0/GPIO4[12]/MCABORT/ENET_CRS/SSP0_SSEL (io), 63 P5_2/GPIO2[11]/MCI1/EMC_D14/U1_RTS/T1_CAP2 (io), 66 P9_1/GPIO4[13]/MCOA2/I2S0_TX_WS/ENET_RX_ER/SSP0_MISO (io), 70 P9_2/GPIO4[14]/MCOB2/I2S0_TX_SDA/ENET_RXD3/SSP0_MOSI (io), 76 P5_3/GPIO2[12]/MCI0/EMC_D15/U1_RI/T1_CAP3 (io), 79 P9_3/GPIO4[15]/MCOA0/USB1_IND1/ENET_RXD2/U3_TXD (io), 80 P5_4/GPIO2[13]/MCOB0/EMC_D8/U1_CTS/T1_MAT0 (io), 81 P5_5/GPIO2[14]/MCOA1/EMC_D9/U1_DCD/T1_MAT1 (io), 89 P5_6/GPIO2[15]/MCOB1/EMC_D10/U1_TXD/T1_MAT2 (io), 91 P5_7/GPIO2[7]/MCOA2/EMC_D11/U1_RXD/T1_MAT3 (io), 92 P9_4/MCOB0/USB1_IND0/GPIO5[17]/ENET_TXD2/U3_RXD (io), 98 P9_5/MCOA1/USB1_PPWR/GPIO5[18]/ENET_TXD3/U0_TXD (io), 103 P9_6/GPIO4[11]/MCOB1/USB1_PWR_FAULT/ENET_COL/U0_RXD (io), 105 P6_0/I2S0_RX_MCLK/I2S0_RX_SCK (io), 107 P6_1/GPIO3[0]/~{EMC_DYCS1}/U0_UCLK/I2S0_RX_WS/T2_CAP0 (io), 111 P6_2/GPIO3[1]/~{EMC_CKEOUT1}/U0_DIR/I2S0_RX_SDA/T2_CAP1 (io), 113 P6_3/GPIO3[2]/USB0_PPWR/EMC_CS1/T2_CAP2 (io), 114 P6_4/GPIO3[3]/CTIN_6/U0_TXD/~{EMC_CAS} (io), 117 P6_5/GPIO3[4]/CTOUT_6/U0_RXD/~{EMC_RAS} (io), 119 P6_6/GPIO0[5]/EMC_BLS1/USB0_PWR_FAULT/T2_CAP3 (io), 123 P6_7/EMC_A15/USB0_IND1/GPIO5[15]/T2_MAT0 (io), 125 P6_8/EMC_A14/USB0_IND0/GPIO5[16]/T2_MAT1 (io), 139 P6_9/GPIO3[5]/EMC_DYCS0/T2_MAT2 (io), 142 P6_10/GPIO3[6]/MCABORT/~{EMC_DQMOUT1} (io), 143 P6_11/GPIO3[7]/~{EMC_CKEOUT0}/T2_MAT3 (io), 145 P6_12/GPIO2[8]/CTOUT_7/~{EMC_DQMOUT0} (io), 158 P7_0/GPIO3[8]/CTOUT_14/LCD_LE (io), 162 P7_1/GPIO3[9]/CTOUT_15/I2S0_TX_WS/LCD_VD19/LCD_VD7/U2_TXD (io), 165 P7_2/GPIO3[10]/CTIN_4/I2S0_TX_SDA/LCD_VD18/LCD_VD6/U2_RXD (io), 167 P7_3/GPIO3[11]/CTIN_3/LCD_VD17/LCD_VD5 (io), 189 P7_4/GPIO3[12]/CTOUT_13/LCD_VD16/LCD_VD4/TRACEDATA[0]/ADC0_4 (io), 191 P7_5/GPIO3[13]/CTOUT_12/LCD_VD8/LCD_VD23/TRACEDATA[1]/ADC0_3 (io), 194 P7_6/GPIO3[14]/CTOUT_11/LCD_LP/TRACEDATA[2] (io), 201 P7_7/GPIO3[15]/CTOUT_8/LCD_PWR/TRACEDATA[3]/ENET_MDC/ADC1_6 (io)
part C pins: 7 PC_0/USB1_ULPI_CLK/ENET_RX_CLK/LCD_DCLK/SD_CLK/ADC1_1 (io), 9 PC_1/USB1_ULPI_D7/U1_RI/ENET_MDC/GPIO6[0]/T3_CAP0/SD_VOLT0 (io), 11 PC_3/USB1_ULPI_D5/U1_RTS/ENET_TXD3/GPIO6[2]/SD_VOLT1/ADC1_0 (io), 13 PC_2/USB1_ULPI_D6/U1_CTS/ENET_TXD2/GPIO6[1]/SD_RST (io), 16 PC_4/USB1_ULPI_D4/ENET_TX_EN/GPIO6[3]/T3_CAP1/SD_DAT0 (io), 20 PC_5/USB1_ULPI_D3/ENET_TX_ER/GPIO6[4]/T3_CAP2/SD_DAT1 (io), 22 PC_6/USB1_ULPI_D2/ENET_RXD2/GPIO6[5]/T3_CAP3/SD_DAT2 (io), 68 PD_6/CTOUT_10/EMC_D20/GPIO6[20] (io), 72 PD_7/CTIN_5/EMC_D21/GPIO6[21] (io), 74 PD_8/CTIN_6/EMC_D22/GPIO6[22] (io), 84 PD_9/CTOUT_13/EMC_D23/GPIO6[23] (io), 86 PD_10/CTIN_1/EMC_BLS3/GPIO6[24] (io), 88 PD_11/EMC_CS3/GPIO6[25]/USB1_ULPI_D0/CTOUT_14 (io), 94 PD_12/EMC_CS2/GPIO6[26]/CTOUT_10 (io), 97 PD_13/CTIN_0/EMC_BLS2/GPIO6[27]/CTOUT_13 (io), 99 PD_14/~{EMC_DYCS2}/GPIO6[28]/CTOUT_11 (io), 101 PD_15/EMC_A17/GPIO6[29]/SD_WP/CTOUT_8 (io), 104 PD_16/EMC_A16/GPIO6[30]/SD_VOLT2/CTOUT_12 (io), 106 PE_0/EMC_A18/GPIO7[0]/CAN1_TD (io), 112 PE_1/EMC_A19/GPIO7[1]/CAN1_RD (io), 115 PE_2/ADCTRIG0/CAN0_RD/EMC_A20/GPIO7[2] (io), 118 PE_3/CAN0_TD/ADCTRIG1/EMC_A21/GPIO7[3] (io), 120 PE_4/NMI/EMC_A22/GPIO7[4] (io), 122 PE_5/CTOUT_3/U1_RTS/EMC_D24/GPIO7[5] (io), 124 PE_6/CTOUT_2/U1_RI/EMC_D25/GPIO7[6] (io), 126 PA_0/I2S1_RX_MCLK/CGU_OUT1 (io), 134 PA_1/GPIO4[8]/QEI_IDX/U2_TXD (io), 136 PA_2/GPIO4[9]/QEI_PHB/U2_RXD (io), 147 PA_3/GPIO4[10]/QEI_PHA (io), 149 PE_7/CTOUT_5/U1_CTS/EMC_D26/GPIO7[7] (io), 150 PE_8/CTOUT_4/U1_DSR/EMC_D27/GPIO7[8] (io), 151 PA_4/CTOUT_9/EMC_A23/GPIO5[19] (io), 152 PE_9/CTIN_4/U1_DCD/EMC_D28/GPIO7[9] (io), 154 PE_10/CTIN_3/U1_DTR/EMC_D29/GPIO7[10] (io), 159 PF_0/SSP0_SCK/GP_CLKIN/I2S1_TX_MCLK (io), 164 PB_0/CTOUT_10/LCD_VD23/GPIO5[20] (io), 168 PF_2/U3_TXD/SSP0_MISO/GPIO7[17] (io), 170 PF_3/U3_RXD/SSP0_MOSI/GPIO7[18] (io), 172 PF_4/SSP1_SCK/GP_CLKIN/TRACECLK/I2S0_TX_MCLK/I2S0_RX_SCK (io), 175 PB_1/USB1_ULPI_DIR/LCD_VD22/GPIO5[21]/CTOUT_6 (io), 177 PB_2/USB1_ULPI_D7/LCD_VD21/GPIO5[22]/CTOUT_7 (io), 178 PB_3/USB1_ULPI_D6/LCD_VD20/GPIO5[23]/CTOUT_8 (io), 180 PB_4/USB1_ULPI_D5/LCD_VD15/GPIO5[24]/CTIN_5 (io), 181 PB_5/USB1_ULPI_D4/LCD_VD14/GPIO5[25]/CTIN_7/LCD_PWR (io), 190 PF_5/U3_UCLK/SSP1_SSEL/TRACEDATA[0]/GPIO7[19]/ADC1_4 (io), 192 PF_6/U3_DIR/SSP1_MISO/TRACEDATA[1]/GPIO7[20]/I2S1_TX_SDA/ADC1_3 (io), 193 PF_7/U3_BAUD/SSP1_MOSI/TRACEDATA[2]/GPIO7[21]/I2S1_TX_WS/ADC1_7 (io), 203 PF_9/U0_DIR/CTOUT_1/GPIO7[23]/ADC1_2 (io), 205 PF_10/U0_TXD/GPIO7[24]/SD_WP/ADC0_5 (io), 207 PF_11/U0_RXD/GPIO7[25]/SD_VOLT2/ADC1_5 (io)
part D pins: 62 CLK0/EMC_CLK0/CLKOUT/SD_CLK/EMC_CLK01/SSP1_SCK/ENET_TX_CLK (ENET_REF_CLK) (io), 141 CLK2/EMC_CLK3/CLKOUT/SD_CLK/EMC_CLK23/I2S0_TX_MCLK/I2S1_RX_SCK (io)
part E pins: 4 ADC0_1/ADC1_1 (in), 8 ADC0_0/ADC1_0/DAC (in), 18 XTAL1, 19 XTAL2, 26 USB0_DP (io), 28 USB0_DM (io), 29 USB0_VBUS (io), 30 USB0_ID (in), 32 USB0_RREF (in), 35 TDI (in), 38 TCK/SWDCLK (in), 41 DBGEN (in), 42 ~{TRST} (in), 44 TMS/SWDIO (in), 46 TDO/SWO (out), 129 USB1_DP (io), 130 USB1_DM (io), 132 I2C0_SCL (io), 133 I2C0_SDA (io), 182 RTCX1 (in), 183 RTCX2 (out), 185 ~{RESET} (in), 186 RTC_ALARM (out), 187 WAKEUP0 (in), 197 ADC0_7/ADC1_7 (in), 199 ADC0_4/ADC1_4 (in), 200 ADC0_3/ADC1_3 (in), 204 ADC0_6/ADC1_6 (in), 206 ADC0_2/ADC1_2 (in), 208 ADC0_5/ADC1_5 (in)
part F pins: 5 VSSIO (power), 6 VDDIO (power), 24 USB0_VDDA3V3_DRIVER (power), 25 USB0_VDDA3V3 (power), 27 USB0_VSSA_TERM (power), 31 USB0_VSSA_REF (power), 33 VDDREG (power), 52 VDDIO (power), 56 VSSIO (power), 57 VDDIO (power), 82 VDDREG (power), 102 VDDIO (power), 109 VSSIO (power), 110 VDDIO (power), 135 VDDREG (power), 155 VDDIO (power), 157 VSSIO (power), 160 VDDIO (power), 184 VBAT (power), 188 VDDREG (power), 195 VDDREG (power), 196 VSSA (power), 198 VDDA (power), 202 VDDIO (power)

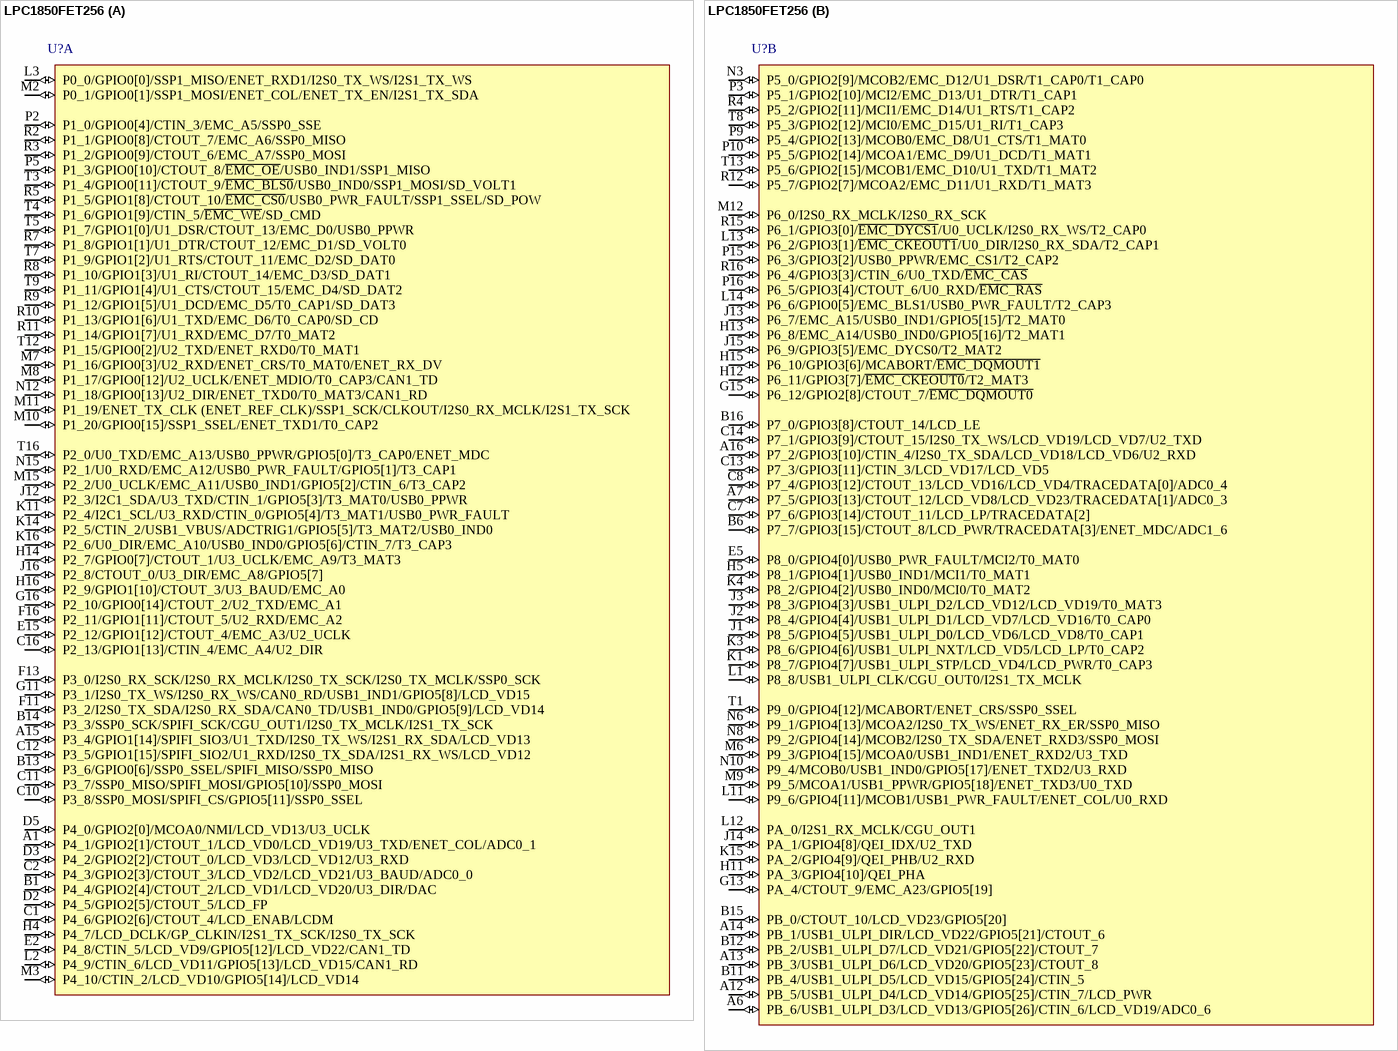
[diagram p37: symbol LPC1850FET256]

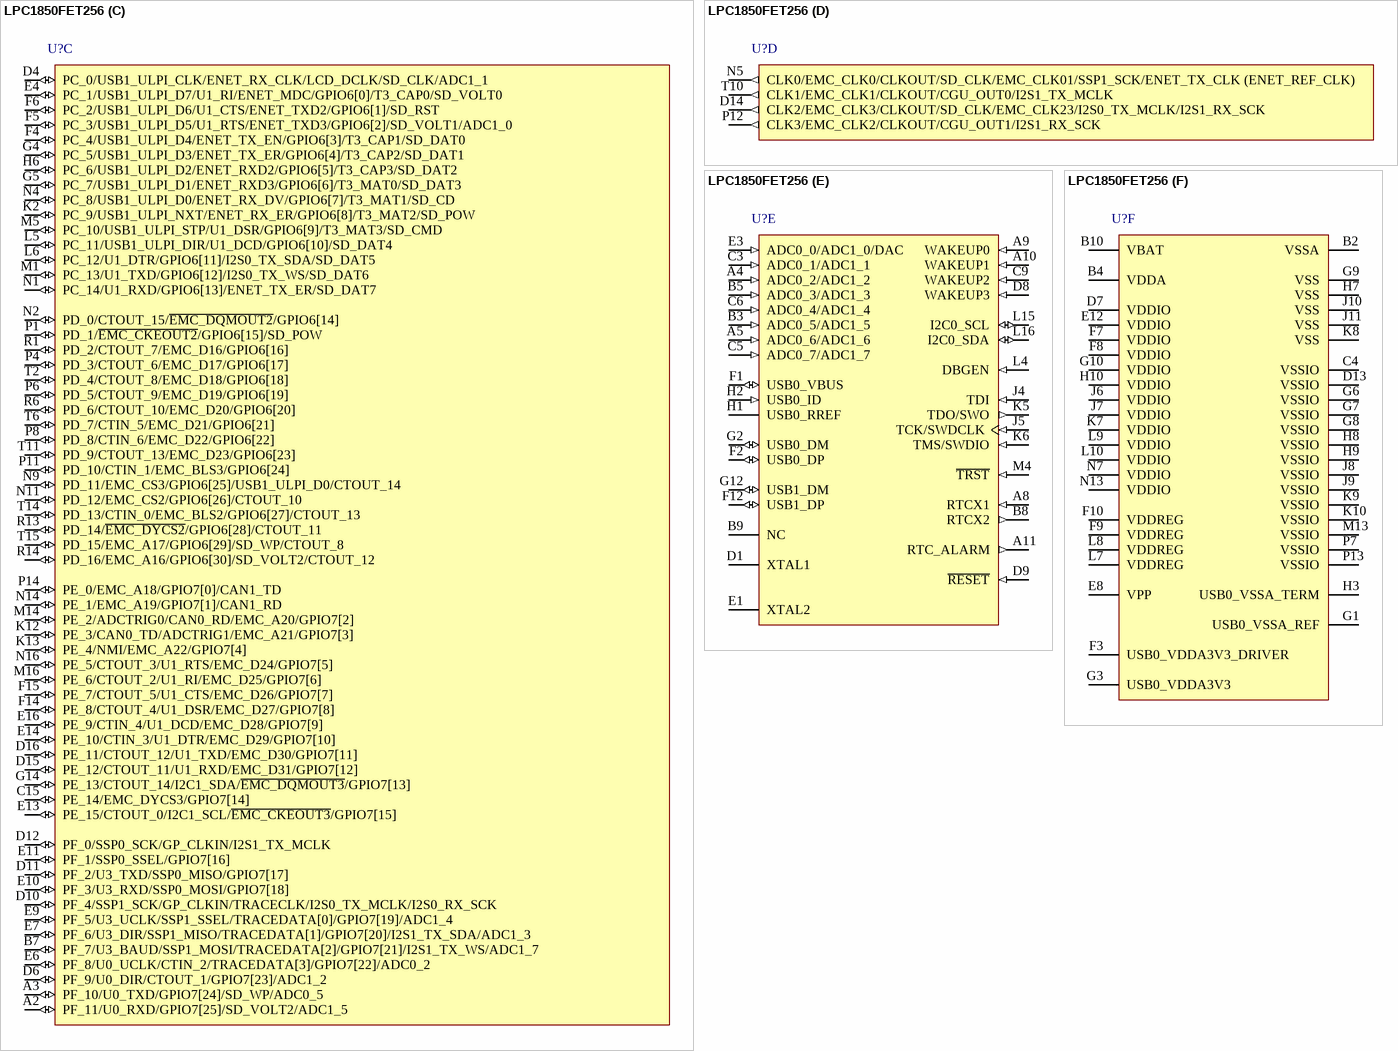
[diagram p38: symbol LPC1850FET256]

## LPC1850FET256
designator U?
32-bit ARM Cortex-M3 MCU, up to 200 kB SRAM, 2 HS USB, Ethernet, LCD, NAND controllers, 256-Pin LBGA; PartNumber: LPC1850FET256; fmax: 180 MHz; SRAM: 200 kB; GPIOs: 164; USB: 2; UART: 4; I2C: 1; PLL: Y; ADC channels: 8; VDD (min): 2.2 V; VDD (typ): 3.3 V; VDD (max): 3.6 V; DatasheetVersion: Rev. 3.1, Dec-2011; PackageVersion: Aug-2005; PackageReference: SOT740-2; PackageDescription: LBGA256: Plastic Low Profile Ball Grid Array Package; 256 Balls; Body 17 x 17 x 1 mm; CAN: 2; SPI: 1; PWM: 1; Timers: 4; Code_JEDEC: MO-192; ComponentLink1Description: Manufacturer URL; ComponentLink1URL: http://www.nxp.com/; ComponentLink2Description: Datasheet; ComponentLink2URL: http://www.nxp.com/documents/data_sheet/LPC1850_30_20_10.pdf
footprint SOT740-2 (BGA, 256-Leads, Body 17x17mm, Pitch 1mm)
part A pins: A1 P4_1/GPIO2[1]/CTOUT_1/LCD_VD0/LCD_VD19/U3_TXD/ENET_COL/ADC0_1 (io), A15 P3_4/GPIO1[14]/SPIFI_SIO3/U1_TXD/I2S0_TX_WS/I2S1_RX_SDA/LCD_VD13 (io), B1 P4_4/GPIO2[4]/CTOUT_2/LCD_VD1/LCD_VD20/U3_DIR/DAC (io), B13 P3_6/GPIO0[6]/SSP0_SSEL/SPIFI_MISO/SSP0_MISO (io), B14 P3_3/SSP0_SCK/SPIFI_SCK/CGU_OUT1/I2S0_TX_MCLK/I2S1_TX_SCK (io), C1 P4_6/GPIO2[6]/CTOUT_4/LCD_ENAB/LCDM (io), C2 P4_3/GPIO2[3]/CTOUT_3/LCD_VD2/LCD_VD21/U3_BAUD/ADC0_0 (io), C10 P3_8/SSP0_MOSI/SPIFI_CS/GPIO5[11]/SSP0_SSEL (io), C11 P3_7/SSP0_MISO/SPIFI_MOSI/GPIO5[10]/SSP0_MOSI (io), C12 P3_5/GPIO1[15]/SPIFI_SIO2/U1_RXD/I2S0_TX_SDA/I2S1_RX_WS/LCD_VD12 (io), C16 P2_13/GPIO1[13]/CTIN_4/EMC_A4/U2_DIR (io), D2 P4_5/GPIO2[5]/CTOUT_5/LCD_FP (io), D3 P4_2/GPIO2[2]/CTOUT_0/LCD_VD3/LCD_VD12/U3_RXD (io), D5 P4_0/GPIO2[0]/MCOA0/NMI/LCD_VD13/U3_UCLK (io), E2 P4_8/CTIN_5/LCD_VD9/GPIO5[12]/LCD_VD22/CAN1_TD (io), E15 P2_12/GPIO1[12]/CTOUT_4/EMC_A3/U2_UCLK (io), F11 P3_2/I2S0_TX_SDA/I2S0_RX_SDA/CAN0_TD/USB1_IND0/GPIO5[9]/LCD_VD14 (io), F13 P3_0/I2S0_RX_SCK/I2S0_RX_MCLK/I2S0_TX_SCK/I2S0_TX_MCLK/SSP0_SCK (io), F16 P2_11/GPIO1[11]/CTOUT_5/U2_RXD/EMC_A2 (io), G11 P3_1/I2S0_TX_WS/I2S0_RX_WS/CAN0_RD/USB1_IND1/GPIO5[8]/LCD_VD15 (io), G16 P2_10/GPIO0[14]/CTOUT_2/U2_TXD/EMC_A1 (io), H4 P4_7/LCD_DCLK/GP_CLKIN/I2S1_TX_SCK/I2S0_TX_SCK (io), H14 P2_7/GPIO0[7]/CTOUT_1/U3_UCLK/EMC_A9/T3_MAT3 (io), H16 P2_9/GPIO1[10]/CTOUT_3/U3_BAUD/EMC_A0 (io), J12 P2_3/I2C1_SDA/U3_TXD/CTIN_1/GPIO5[3]/T3_MAT0/USB0_PPWR (io), J16 P2_8/CTOUT_0/U3_DIR/EMC_A8/GPIO5[7] (io), K11 P2_4/I2C1_SCL/U3_RXD/CTIN_0/GPIO5[4]/T3_MAT1/USB0_PWR_FAULT (io), K14 P2_5/CTIN_2/USB1_VBUS/ADCTRIG1/GPIO5[5]/T3_MAT2/USB0_IND0 (io), K16 P2_6/U0_DIR/EMC_A10/USB0_IND0/GPIO5[6]/CTIN_7/T3_CAP3 (io), L2 P4_9/CTIN_6/LCD_VD11/GPIO5[13]/LCD_VD15/CAN1_RD (io), L3 P0_0/GPIO0[0]/SSP1_MISO/ENET_RXD1/I2S0_TX_WS/I2S1_TX_WS (io), M2 P0_1/GPIO0[1]/SSP1_MOSI/ENET_COL/ENET_TX_EN/I2S1_TX_SDA (io), M3 P4_10/CTIN_2/LCD_VD10/GPIO5[14]/LCD_VD14 (io), M7 P1_16/GPIO0[3]/U2_RXD/ENET_CRS/T0_MAT0/ENET_RX_DV (io), M8 P1_17/GPIO0[12]/U2_UCLK/ENET_MDIO/T0_CAP3/CAN1_TD (io), M10 P1_20/GPIO0[15]/SSP1_SSEL/ENET_TXD1/T0_CAP2 (io), M11 P1_19/ENET_TX_CLK (ENET_REF_CLK)/SSP1_SCK/CLKOUT/I2S0_RX_MCLK/I2S1_TX_SCK (io), M15 P2_2/U0_UCLK/EMC_A11/USB0_IND1/GPIO5[2]/CTIN_6/T3_CAP2 (io), N12 P1_18/GPIO0[13]/U2_DIR/ENET_TXD0/T0_MAT3/CAN1_RD (io), N15 P2_1/U0_RXD/EMC_A12/USB0_PWR_FAULT/GPIO5[1]/T3_CAP1 (io), P2 P1_0/GPIO0[4]/CTIN_3/EMC_A5/SSP0_SSE (io), P5 P1_3/GPIO0[10]/CTOUT_8/~{EMC_OE}/USB0_IND1/SSP1_MISO (io), R2 P1_1/GPIO0[8]/CTOUT_7/EMC_A6/SSP0_MISO (io), R3 P1_2/GPIO0[9]/CTOUT_6/EMC_A7/SSP0_MOSI (io), R5 P1_5/GPIO1[8]/CTOUT_10/~{EMC_CS0}/USB0_PWR_FAULT/SSP1_SSEL/SD_POW (io), R7 P1_8/GPIO1[1]/U1_DTR/CTOUT_12/EMC_D1/SD_VOLT0 (io), R8 P1_10/GPIO1[3]/U1_RI/CTOUT_14/EMC_D3/SD_DAT1 (io), R9 P1_12/GPIO1[5]/U1_DCD/EMC_D5/T0_CAP1/SD_DAT3 (io), R10 P1_13/GPIO1[6]/U1_TXD/EMC_D6/T0_CAP0/SD_CD (io), R11 P1_14/GPIO1[7]/U1_RXD/EMC_D7/T0_MAT2 (io), T3 P1_4/GPIO0[11]/CTOUT_9/~{EMC_BLS0}/USB0_IND0/SSP1_MOSI/SD_VOLT1 (io), T4 P1_6/GPIO1[9]/CTIN_5/~{EMC_WE}/SD_CMD (io), T5 P1_7/GPIO1[0]/U1_DSR/CTOUT_13/EMC_D0/USB0_PPWR (io), T7 P1_9/GPIO1[2]/U1_RTS/CTOUT_11/EMC_D2/SD_DAT0 (io), T9 P1_11/GPIO1[4]/U1_CTS/CTOUT_15/EMC_D4/SD_DAT2 (io), T12 P1_15/GPIO0[2]/U2_TXD/ENET_RXD0/T0_MAT1 (io), T16 P2_0/U0_TXD/EMC_A13/USB0_PPWR/GPIO5[0]/T3_CAP0/ENET_MDC (io)
part B pins: A6 PB_6/USB1_ULPI_D3/LCD_VD13/GPIO5[26]/CTIN_6/LCD_VD19/ADC0_6 (io), A7 P7_5/GPIO3[13]/CTOUT_12/LCD_VD8/LCD_VD23/TRACEDATA[1]/ADC0_3 (io), A12 PB_5/USB1_ULPI_D4/LCD_VD14/GPIO5[25]/CTIN_7/LCD_PWR (io), A13 PB_3/USB1_ULPI_D6/LCD_VD20/GPIO5[23]/CTOUT_8 (io), A14 PB_1/USB1_ULPI_DIR/LCD_VD22/GPIO5[21]/CTOUT_6 (io), A16 P7_2/GPIO3[10]/CTIN_4/I2S0_TX_SDA/LCD_VD18/LCD_VD6/U2_RXD (io), B6 P7_7/GPIO3[15]/CTOUT_8/LCD_PWR/TRACEDATA[3]/ENET_MDC/ADC1_6 (io), B11 PB_4/USB1_ULPI_D5/LCD_VD15/GPIO5[24]/CTIN_5 (io), B12 PB_2/USB1_ULPI_D7/LCD_VD21/GPIO5[22]/CTOUT_7 (io), B15 PB_0/CTOUT_10/LCD_VD23/GPIO5[20] (io), B16 P7_0/GPIO3[8]/CTOUT_14/LCD_LE (io), C7 P7_6/GPIO3[14]/CTOUT_11/LCD_LP/TRACEDATA[2] (io), C8 P7_4/GPIO3[12]/CTOUT_13/LCD_VD16/LCD_VD4/TRACEDATA[0]/ADC0_4 (io), C13 P7_3/GPIO3[11]/CTIN_3/LCD_VD17/LCD_VD5 (io), C14 P7_1/GPIO3[9]/CTOUT_15/I2S0_TX_WS/LCD_VD19/LCD_VD7/U2_TXD (io), E5 P8_0/GPIO4[0]/USB0_PWR_FAULT/MCI2/T0_MAT0 (io), G13 PA_4/CTOUT_9/EMC_A23/GPIO5[19] (io), G15 P6_12/GPIO2[8]/CTOUT_7/~{EMC_DQMOUT0} (io), H5 P8_1/GPIO4[1]/USB0_IND1/MCI1/T0_MAT1 (io), H11 PA_3/GPIO4[10]/QEI_PHA (io), H12 P6_11/GPIO3[7]/~{EMC_CKEOUT0}/T2_MAT3 (io), H13 P6_8/EMC_A14/USB0_IND0/GPIO5[16]/T2_MAT1 (io), H15 P6_10/GPIO3[6]/MCABORT/~{EMC_DQMOUT1} (io), J1 P8_5/GPIO4[5]/USB1_ULPI_D0/LCD_VD6/LCD_VD8/T0_CAP1 (io), J2 P8_4/GPIO4[4]/USB1_ULPI_D1/LCD_VD7/LCD_VD16/T0_CAP0 (io), J3 P8_3/GPIO4[3]/USB1_ULPI_D2/LCD_VD12/LCD_VD19/T0_MAT3 (io), J13 P6_7/EMC_A15/USB0_IND1/GPIO5[15]/T2_MAT0 (io), J14 PA_1/GPIO4[8]/QEI_IDX/U2_TXD (io), J15 P6_9/GPIO3[5]/EMC_DYCS0/T2_MAT2 (io), K1 P8_7/GPIO4[7]/USB1_ULPI_STP/LCD_VD4/LCD_PWR/T0_CAP3 (io), K3 P8_6/GPIO4[6]/USB1_ULPI_NXT/LCD_VD5/LCD_LP/T0_CAP2 (io), K4 P8_2/GPIO4[2]/USB0_IND0/MCI0/T0_MAT2 (io), K15 PA_2/GPIO4[9]/QEI_PHB/U2_RXD (io), L1 P8_8/USB1_ULPI_CLK/CGU_OUT0/I2S1_TX_MCLK (io), L11 P9_6/GPIO4[11]/MCOB1/USB1_PWR_FAULT/ENET_COL/U0_RXD (io), L12 PA_0/I2S1_RX_MCLK/CGU_OUT1 (io), L13 P6_2/GPIO3[1]/~{EMC_CKEOUT1}/U0_DIR/I2S0_RX_SDA/T2_CAP1 (io), L14 P6_6/GPIO0[5]/EMC_BLS1/USB0_PWR_FAULT/T2_CAP3 (io), M6 P9_3/GPIO4[15]/MCOA0/USB1_IND1/ENET_RXD2/U3_TXD (io), M9 P9_5/MCOA1/USB1_PPWR/GPIO5[18]/ENET_TXD3/U0_TXD (io), M12 P6_0/I2S0_RX_MCLK/I2S0_RX_SCK (io), N3 P5_0/GPIO2[9]/MCOB2/EMC_D12/U1_DSR/T1_CAP0/T1_CAP0 (io), N6 P9_1/GPIO4[13]/MCOA2/I2S0_TX_WS/ENET_RX_ER/SSP0_MISO (io), N8 P9_2/GPIO4[14]/MCOB2/I2S0_TX_SDA/ENET_RXD3/SSP0_MOSI (io), N10 P9_4/MCOB0/USB1_IND0/GPIO5[17]/ENET_TXD2/U3_RXD (io), P3 P5_1/GPIO2[10]/MCI2/EMC_D13/U1_DTR/T1_CAP1 (io), P9 P5_4/GPIO2[13]/MCOB0/EMC_D8/U1_CTS/T1_MAT0 (io), P10 P5_5/GPIO2[14]/MCOA1/EMC_D9/U1_DCD/T1_MAT1 (io), P15 P6_3/GPIO3[2]/USB0_PPWR/EMC_CS1/T2_CAP2 (io), P16 P6_5/GPIO3[4]/CTOUT_6/U0_RXD/~{EMC_RAS} (io), R4 P5_2/GPIO2[11]/MCI1/EMC_D14/U1_RTS/T1_CAP2 (io), R12 P5_7/GPIO2[7]/MCOA2/EMC_D11/U1_RXD/T1_MAT3 (io), R15 P6_1/GPIO3[0]/~{EMC_DYCS1}/U0_UCLK/I2S0_RX_WS/T2_CAP0 (io), R16 P6_4/GPIO3[3]/CTIN_6/U0_TXD/~{EMC_CAS} (io), T1 P9_0/GPIO4[12]/MCABORT/ENET_CRS/SSP0_SSEL (io), T8 P5_3/GPIO2[12]/MCI0/EMC_D15/U1_RI/T1_CAP3 (io), T13 P5_6/GPIO2[15]/MCOB1/EMC_D10/U1_TXD/T1_MAT2 (io)
part C pins: A2 PF_11/U0_RXD/GPIO7[25]/SD_VOLT2/ADC1_5 (io), A3 PF_10/U0_TXD/GPIO7[24]/SD_WP/ADC0_5 (io), B7 PF_7/U3_BAUD/SSP1_MOSI/TRACEDATA[2]/GPIO7[21]/I2S1_TX_WS/ADC1_7 (io), C15 PE_14/EMC_DYCS3/GPIO7[14] (io), D4 PC_0/USB1_ULPI_CLK/ENET_RX_CLK/LCD_DCLK/SD_CLK/ADC1_1 (io), D6 PF_9/U0_DIR/CTOUT_1/GPIO7[23]/ADC1_2 (io), D10 PF_4/SSP1_SCK/GP_CLKIN/TRACECLK/I2S0_TX_MCLK/I2S0_RX_SCK (io), D11 PF_2/U3_TXD/SSP0_MISO/GPIO7[17] (io), D12 PF_0/SSP0_SCK/GP_CLKIN/I2S1_TX_MCLK (io), D15 PE_12/CTOUT_11/U1_RXD/EMC_D31/GPIO7[12] (io), D16 PE_11/CTOUT_12/U1_TXD/EMC_D30/GPIO7[11] (io), E4 PC_1/USB1_ULPI_D7/U1_RI/ENET_MDC/GPIO6[0]/T3_CAP0/SD_VOLT0 (io), E6 PF_8/U0_UCLK/CTIN_2/TRACEDATA[3]/GPIO7[22]/ADC0_2 (io), E7 PF_6/U3_DIR/SSP1_MISO/TRACEDATA[1]/GPIO7[20]/I2S1_TX_SDA/ADC1_3 (io), E9 PF_5/U3_UCLK/SSP1_SSEL/TRACEDATA[0]/GPIO7[19]/ADC1_4 (io), E10 PF_3/U3_RXD/SSP0_MOSI/GPIO7[18] (io), E11 PF_1/SSP0_SSEL/GPIO7[16] (io), E13 PE_15/CTOUT_0/I2C1_SCL/~{EMC_CKEOUT3}/GPIO7[15] (io), E14 PE_10/CTIN_3/U1_DTR/EMC_D29/GPIO7[10] (io), E16 PE_9/CTIN_4/U1_DCD/EMC_D28/GPIO7[9] (io), F4 PC_4/USB1_ULPI_D4/ENET_TX_EN/GPIO6[3]/T3_CAP1/SD_DAT0 (io), F5 PC_3/USB1_ULPI_D5/U1_RTS/ENET_TXD3/GPIO6[2]/SD_VOLT1/ADC1_0 (io), F6 PC_2/USB1_ULPI_D6/U1_CTS/ENET_TXD2/GPIO6[1]/SD_RST (io), F14 PE_8/CTOUT_4/U1_DSR/EMC_D27/GPIO7[8] (io), F15 PE_7/CTOUT_5/U1_CTS/EMC_D26/GPIO7[7] (io), G4 PC_5/USB1_ULPI_D3/ENET_TX_ER/GPIO6[4]/T3_CAP2/SD_DAT1 (io), G5 PC_7/USB1_ULPI_D1/ENET_RXD3/GPIO6[6]/T3_MAT0/SD_DAT3 (io), G14 PE_13/CTOUT_14/I2C1_SDA/~{EMC_DQMOUT3}/GPIO7[13] (io), H6 PC_6/USB1_ULPI_D2/ENET_RXD2/GPIO6[5]/T3_CAP3/SD_DAT2 (io), K2 PC_9/USB1_ULPI_NXT/ENET_RX_ER/GPIO6[8]/T3_MAT2/SD_POW (io), K12 PE_3/CAN0_TD/ADCTRIG1/EMC_A21/GPIO7[3] (io), K13 PE_4/NMI/EMC_A22/GPIO7[4] (io), L5 PC_11/USB1_ULPI_DIR/U1_DCD/GPIO6[10]/SD_DAT4 (io), L6 PC_12/U1_DTR/GPIO6[11]/I2S0_TX_SDA/SD_DAT5 (io), M1 PC_13/U1_TXD/GPIO6[12]/I2S0_TX_WS/SD_DAT6 (io), M5 PC_10/USB1_ULPI_STP/U1_DSR/GPIO6[9]/T3_MAT3/SD_CMD (io), M14 PE_2/ADCTRIG0/CAN0_RD/EMC_A20/GPIO7[2] (io), M16 PE_6/CTOUT_2/U1_RI/EMC_D25/GPIO7[6] (io), N1 PC_14/U1_RXD/GPIO6[13]/ENET_TX_ER/SD_DAT7 (io), N2 PD_0/CTOUT_15/~{EMC_DQMOUT2}/GPIO6[14] (io), N4 PC_8/USB1_ULPI_D0/ENET_RX_DV/GPIO6[7]/T3_MAT1/SD_CD (io), N9 PD_11/EMC_CS3/GPIO6[25]/USB1_ULPI_D0/CTOUT_14 (io), N11 PD_12/EMC_CS2/GPIO6[26]/CTOUT_10 (io), N14 PE_1/EMC_A19/GPIO7[1]/CAN1_RD (io), N16 PE_5/CTOUT_3/U1_RTS/EMC_D24/GPIO7[5] (io), P1 PD_1/~{EMC_CKEOUT2}/GPIO6[15]/SD_POW (io), P4 PD_3/CTOUT_6/EMC_D17/GPIO6[17] (io), P6 PD_5/CTOUT_9/EMC_D19/GPIO6[19] (io), P8 PD_8/CTIN_6/EMC_D22/GPIO6[22] (io), P11 PD_10/CTIN_1/EMC_BLS3/GPIO6[24] (io), P14 PE_0/EMC_A18/GPIO7[0]/CAN1_TD (io), R1 PD_2/CTOUT_7/EMC_D16/GPIO6[16] (io), R6 PD_6/CTOUT_10/EMC_D20/GPIO6[20] (io), R13 PD_14/~{EMC_DYCS2}/GPIO6[28]/CTOUT_11 (io), R14 PD_16/EMC_A16/GPIO6[30]/SD_VOLT2/CTOUT_12 (io), T2 PD_4/CTOUT_8/EMC_D18/GPIO6[18] (io), T6 PD_7/CTIN_5/EMC_D21/GPIO6[21] (io), T11 PD_9/CTOUT_13/EMC_D23/GPIO6[23] (io), T14 PD_13/CTIN_0/EMC_BLS2/GPIO6[27]/CTOUT_13 (io), T15 PD_15/EMC_A17/GPIO6[29]/SD_WP/CTOUT_8 (io)
part D pins: D14 CLK2/EMC_CLK3/CLKOUT/SD_CLK/EMC_CLK23/I2S0_TX_MCLK/I2S1_RX_SCK (out), N5 CLK0/EMC_CLK0/CLKOUT/SD_CLK/EMC_CLK01/SSP1_SCK/ENET_TX_CLK (ENET_REF_CLK) (out), P12 CLK3/EMC_CLK2/CLKOUT/CGU_OUT1/I2S1_RX_SCK (out), T10 CLK1/EMC_CLK1/CLKOUT/CGU_OUT0/I2S1_TX_MCLK (out)
part E pins: A4 ADC0_2/ADC1_2 (in), A5 ADC0_6/ADC1_6 (in), A8 RTCX1 (in), A9 WAKEUP0 (in), A10 WAKEUP1 (in), A11 RTC_ALARM (out), B3 ADC0_5/ADC1_5 (in), B5 ADC0_3/ADC1_3 (in), B8 RTCX2 (out), B9 NC, C3 ADC0_1/ADC1_1 (in), C5 ADC0_7/ADC1_7 (in), C6 ADC0_4/ADC1_4 (in), C9 WAKEUP2 (in), D1 XTAL1, D8 WAKEUP3 (in), D9 ~{RESET} (in), E1 XTAL2, E3 ADC0_0/ADC1_0/DAC (in), F1 USB0_VBUS (io), F2 USB0_DP (io), F12 USB1_DP (io), G2 USB0_DM (io), G12 USB1_DM (io), H1 USB0_RREF, H2 USB0_ID (in), J4 TDI (in), J5 TCK/SWDCLK (in), K5 TDO/SWO (out), K6 TMS/SWDIO (in), L4 DBGEN (in), L15 I2C0_SCL (io), L16 I2C0_SDA (io), M4 ~{TRST} (in)
part F pins: B2 VSSA (power), B4 VDDA (power), B10 VBAT (power), C4 VSSIO (power), D7 VDDIO (power), D13 VSSIO (power), E8 VPP (power), E12 VDDIO (power), F3 USB0_VDDA3V3_DRIVER (power), F7 VDDIO (power), F8 VDDIO (power), F9 VDDREG (power), F10 VDDREG (power), G1 USB0_VSSA_REF (power), G3 USB0_VDDA3V3 (power), G6 VSSIO (power), G7 VSSIO (power), G8 VSSIO (power), G9 VSS (power), G10 VDDIO (power), H3 USB0_VSSA_TERM (power), H7 VSS (power), H8 VSSIO (power), H9 VSSIO (power), H10 VDDIO (power), J6 VDDIO (power), J7 VDDIO (power), J8 VSSIO (power), J9 VSSIO (power), J10 VSS (power), J11 VSS (power), K7 VDDIO (power), K8 VSS (power), K9 VSSIO (power), K10 VSSIO (power), L7 VDDREG (power), L8 VDDREG (power), L9 VDDIO (power), L10 VDDIO (power), M13 VSSIO (power), N7 VDDIO (power), N13 VDDIO (power), P7 VSSIO (power), P13 VSSIO (power)

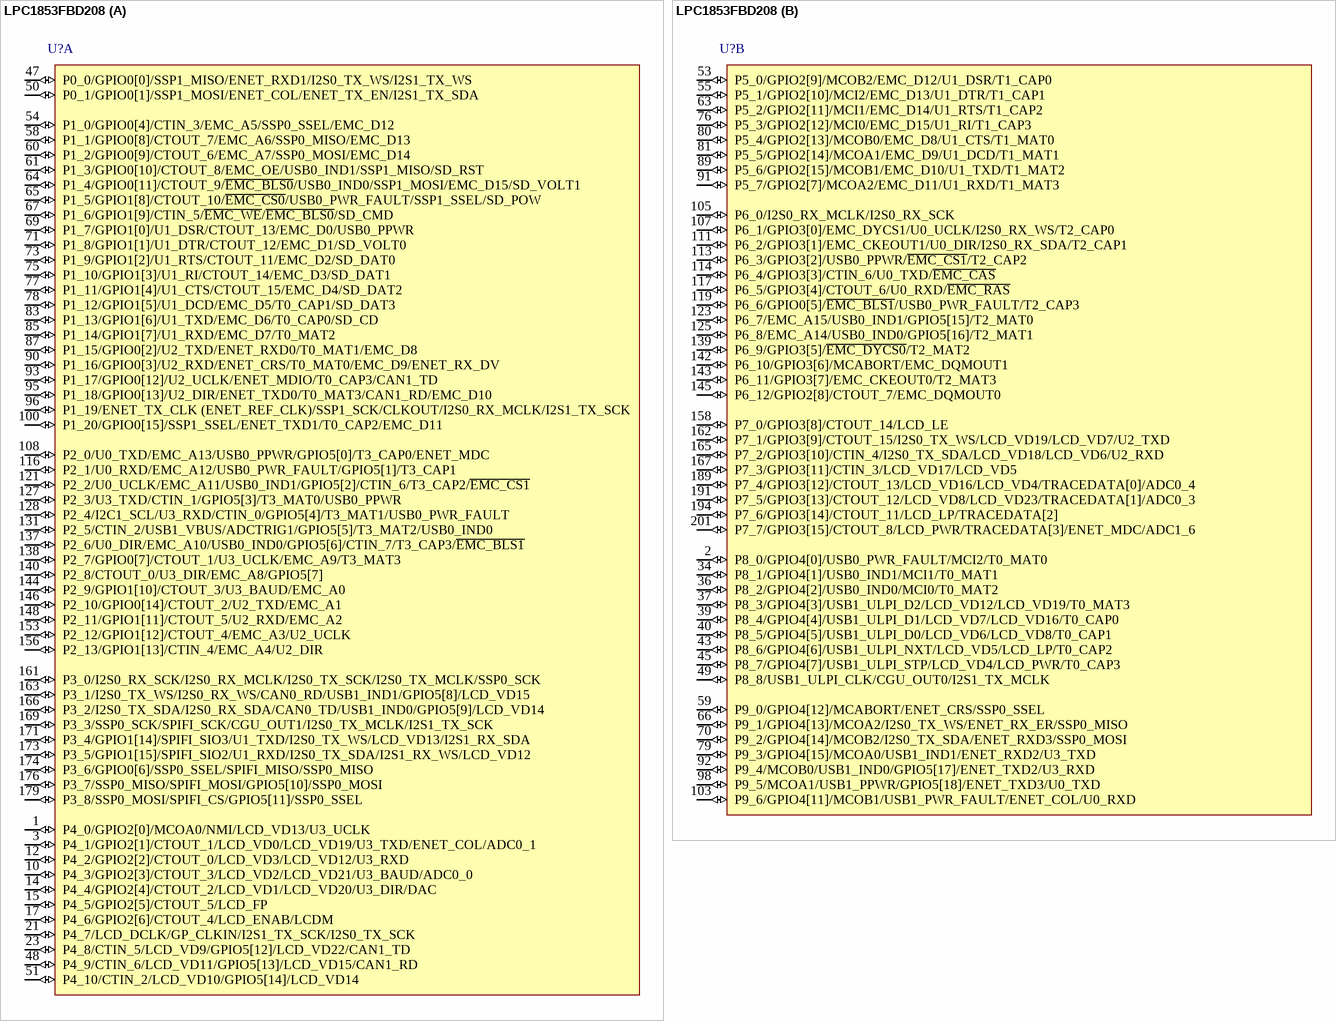
[diagram p39: symbol LPC1853FBD208]

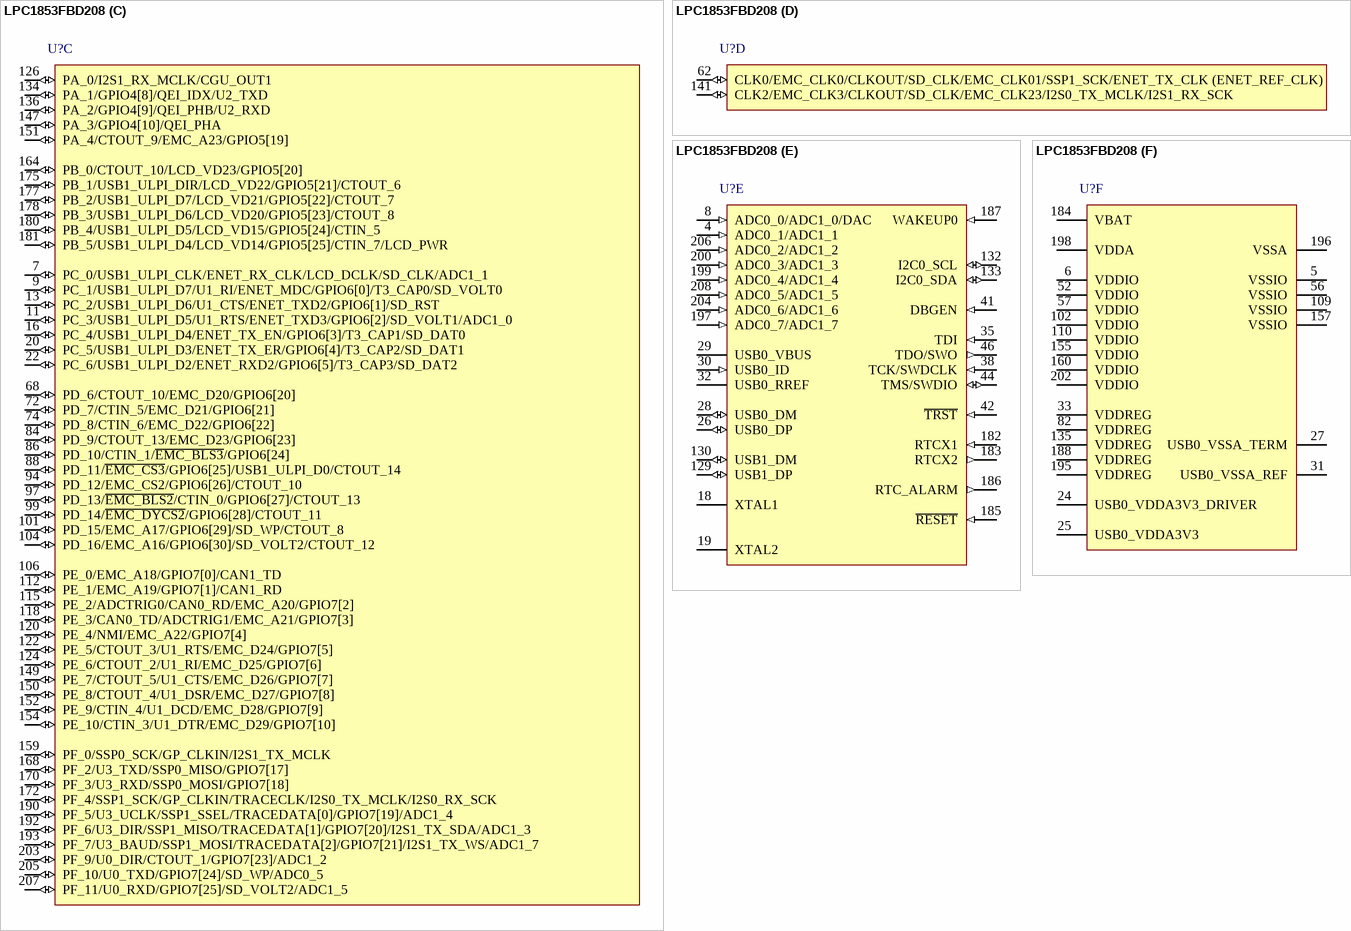
[diagram p40: symbol LPC1853FBD208]

## LPC1853FBD208
designator U?
32-bit ARM Cortex-M3 MCU, 512 kB Flash, 136 kB SRAM, 2 HS USB with on-chip PHY, Ethernet, LCD, CAN, AES, SPIFI, SCT, 208-Pin LQFP; PartNumber: LPC1853FBD208; fmax: 180 MHz; SRAM: 136 kB; Flash: 512 kB; GPIOs: 142; USB: 2; UART: 4; SPI: 1; PLL: Y; ADC channels: 8; VDD (min): 2.2 V; VDD (typ): 3.3 V; VDD (max): 3.6 V; Code_IEC: 136E30; DatasheetVersion: Rev. 1, Dec-2011; PackageVersion: Feb-2003; PackageReference: SOT459-1; PackageDescription: LQFP208; Plastic Low Profile Quad Flat Package; 208 Leads; Body 28 x 28 x 1.4 mm; CAN: 2; SSP: 1; PWM: 1; Timers: 4; Code_JEDEC: MS-026; ComponentLink1Description: Manufacturer URL; ComponentLink1URL: http://www.nxp.com/; ComponentLink2Description: Datasheet; ComponentLink2URL: http://www.nxp.com/documents/data_sheet/LPC1857_53.pdf
footprint SOT459-1_V (Thin QFP, 208-Leads, Body 28x28mm, Pitch 0.5mm, NXP Recommended)
part A pins: 1 P4_0/GPIO2[0]/MCOA0/NMI/LCD_VD13/U3_UCLK (io), 3 P4_1/GPIO2[1]/CTOUT_1/LCD_VD0/LCD_VD19/U3_TXD/ENET_COL/ADC0_1 (io), 10 P4_3/GPIO2[3]/CTOUT_3/LCD_VD2/LCD_VD21/U3_BAUD/ADC0_0 (io), 12 P4_2/GPIO2[2]/CTOUT_0/LCD_VD3/LCD_VD12/U3_RXD (io), 14 P4_4/GPIO2[4]/CTOUT_2/LCD_VD1/LCD_VD20/U3_DIR/DAC (io), 15 P4_5/GPIO2[5]/CTOUT_5/LCD_FP (io), 17 P4_6/GPIO2[6]/CTOUT_4/LCD_ENAB/LCDM (io), 21 P4_7/LCD_DCLK/GP_CLKIN/I2S1_TX_SCK/I2S0_TX_SCK (io), 23 P4_8/CTIN_5/LCD_VD9/GPIO5[12]/LCD_VD22/CAN1_TD (io), 47 P0_0/GPIO0[0]/SSP1_MISO/ENET_RXD1/I2S0_TX_WS/I2S1_TX_WS (io), 48 P4_9/CTIN_6/LCD_VD11/GPIO5[13]/LCD_VD15/CAN1_RD (io), 50 P0_1/GPIO0[1]/SSP1_MOSI/ENET_COL/ENET_TX_EN/I2S1_TX_SDA (io), 51 P4_10/CTIN_2/LCD_VD10/GPIO5[14]/LCD_VD14 (io), 54 P1_0/GPIO0[4]/CTIN_3/EMC_A5/SSP0_SSEL/EMC_D12 (io), 58 P1_1/GPIO0[8]/CTOUT_7/EMC_A6/SSP0_MISO/EMC_D13 (io), 60 P1_2/GPIO0[9]/CTOUT_6/EMC_A7/SSP0_MOSI/EMC_D14 (io), 61 P1_3/GPIO0[10]/CTOUT_8/EMC_OE/USB0_IND1/SSP1_MISO/SD_RST (io), 64 P1_4/GPIO0[11]/CTOUT_9/~{EMC_BLS0}/USB0_IND0/SSP1_MOSI/EMC_D15/SD_VOLT1 (io), 65 P1_5/GPIO1[8]/CTOUT_10/~{EMC_CS0}/USB0_PWR_FAULT/SSP1_SSEL/SD_POW (io), 67 P1_6/GPIO1[9]/CTIN_5/~{EMC_WE}/~{EMC_BLS0}/SD_CMD (io), 69 P1_7/GPIO1[0]/U1_DSR/CTOUT_13/EMC_D0/USB0_PPWR (io), 71 P1_8/GPIO1[1]/U1_DTR/CTOUT_12/EMC_D1/SD_VOLT0 (io), 73 P1_9/GPIO1[2]/U1_RTS/CTOUT_11/EMC_D2/SD_DAT0 (io), 75 P1_10/GPIO1[3]/U1_RI/CTOUT_14/EMC_D3/SD_DAT1 (io), 77 P1_11/GPIO1[4]/U1_CTS/CTOUT_15/EMC_D4/SD_DAT2 (io), 78 P1_12/GPIO1[5]/U1_DCD/EMC_D5/T0_CAP1/SD_DAT3 (io), 83 P1_13/GPIO1[6]/U1_TXD/EMC_D6/T0_CAP0/SD_CD (io), 85 P1_14/GPIO1[7]/U1_RXD/EMC_D7/T0_MAT2 (io), 87 P1_15/GPIO0[2]/U2_TXD/ENET_RXD0/T0_MAT1/EMC_D8 (io), 90 P1_16/GPIO0[3]/U2_RXD/ENET_CRS/T0_MAT0/EMC_D9/ENET_RX_DV (io), 93 P1_17/GPIO0[12]/U2_UCLK/ENET_MDIO/T0_CAP3/CAN1_TD (io), 95 P1_18/GPIO0[13]/U2_DIR/ENET_TXD0/T0_MAT3/CAN1_RD/EMC_D10 (io), 96 P1_19/ENET_TX_CLK (ENET_REF_CLK)/SSP1_SCK/CLKOUT/I2S0_RX_MCLK/I2S1_TX_SCK (io), 100 P1_20/GPIO0[15]/SSP1_SSEL/ENET_TXD1/T0_CAP2/EMC_D11 (io), 108 P2_0/U0_TXD/EMC_A13/USB0_PPWR/GPIO5[0]/T3_CAP0/ENET_MDC (io), 116 P2_1/U0_RXD/EMC_A12/USB0_PWR_FAULT/GPIO5[1]/T3_CAP1 (io), 121 P2_2/U0_UCLK/EMC_A11/USB0_IND1/GPIO5[2]/CTIN_6/T3_CAP2/~{EMC_CS1} (io), 127 P2_3/U3_TXD/CTIN_1/GPIO5[3]/T3_MAT0/USB0_PPWR (io), 128 P2_4/I2C1_SCL/U3_RXD/CTIN_0/GPIO5[4]/T3_MAT1/USB0_PWR_FAULT (io), 131 P2_5/CTIN_2/USB1_VBUS/ADCTRIG1/GPIO5[5]/T3_MAT2/USB0_IND0 (io), 137 P2_6/U0_DIR/EMC_A10/USB0_IND0/GPIO5[6]/CTIN_7/T3_CAP3/~{EMC_BLS1} (io), 138 P2_7/GPIO0[7]/CTOUT_1/U3_UCLK/EMC_A9/T3_MAT3 (io), 140 P2_8/CTOUT_0/U3_DIR/EMC_A8/GPIO5[7] (io), 144 P2_9/GPIO1[10]/CTOUT_3/U3_BAUD/EMC_A0 (io), 146 P2_10/GPIO0[14]/CTOUT_2/U2_TXD/EMC_A1 (io), 148 P2_11/GPIO1[11]/CTOUT_5/U2_RXD/EMC_A2 (io), 153 P2_12/GPIO1[12]/CTOUT_4/EMC_A3/U2_UCLK (io), 156 P2_13/GPIO1[13]/CTIN_4/EMC_A4/U2_DIR (io), 161 P3_0/I2S0_RX_SCK/I2S0_RX_MCLK/I2S0_TX_SCK/I2S0_TX_MCLK/SSP0_SCK (io), 163 P3_1/I2S0_TX_WS/I2S0_RX_WS/CAN0_RD/USB1_IND1/GPIO5[8]/LCD_VD15 (io), 166 P3_2/I2S0_TX_SDA/I2S0_RX_SDA/CAN0_TD/USB1_IND0/GPIO5[9]/LCD_VD14 (io), 169 P3_3/SSP0_SCK/SPIFI_SCK/CGU_OUT1/I2S0_TX_MCLK/I2S1_TX_SCK (io), 171 P3_4/GPIO1[14]/SPIFI_SIO3/U1_TXD/I2S0_TX_WS/LCD_VD13/I2S1_RX_SDA (io), 173 P3_5/GPIO1[15]/SPIFI_SIO2/U1_RXD/I2S0_TX_SDA/I2S1_RX_WS/LCD_VD12 (io), 174 P3_6/GPIO0[6]/SSP0_SSEL/SPIFI_MISO/SSP0_MISO (io), 176 P3_7/SSP0_MISO/SPIFI_MOSI/GPIO5[10]/SSP0_MOSI (io), 179 P3_8/SSP0_MOSI/SPIFI_CS/GPIO5[11]/SSP0_SSEL (io)
part B pins: 2 P8_0/GPIO4[0]/USB0_PWR_FAULT/MCI2/T0_MAT0 (io), 34 P8_1/GPIO4[1]/USB0_IND1/MCI1/T0_MAT1 (io), 36 P8_2/GPIO4[2]/USB0_IND0/MCI0/T0_MAT2 (io), 37 P8_3/GPIO4[3]/USB1_ULPI_D2/LCD_VD12/LCD_VD19/T0_MAT3 (io), 39 P8_4/GPIO4[4]/USB1_ULPI_D1/LCD_VD7/LCD_VD16/T0_CAP0 (io), 40 P8_5/GPIO4[5]/USB1_ULPI_D0/LCD_VD6/LCD_VD8/T0_CAP1 (io), 43 P8_6/GPIO4[6]/USB1_ULPI_NXT/LCD_VD5/LCD_LP/T0_CAP2 (io), 45 P8_7/GPIO4[7]/USB1_ULPI_STP/LCD_VD4/LCD_PWR/T0_CAP3 (io), 49 P8_8/USB1_ULPI_CLK/CGU_OUT0/I2S1_TX_MCLK (io), 53 P5_0/GPIO2[9]/MCOB2/EMC_D12/U1_DSR/T1_CAP0 (io), 55 P5_1/GPIO2[10]/MCI2/EMC_D13/U1_DTR/T1_CAP1 (io), 59 P9_0/GPIO4[12]/MCABORT/ENET_CRS/SSP0_SSEL (io), 63 P5_2/GPIO2[11]/MCI1/EMC_D14/U1_RTS/T1_CAP2 (io), 66 P9_1/GPIO4[13]/MCOA2/I2S0_TX_WS/ENET_RX_ER/SSP0_MISO (io), 70 P9_2/GPIO4[14]/MCOB2/I2S0_TX_SDA/ENET_RXD3/SSP0_MOSI (io), 76 P5_3/GPIO2[12]/MCI0/EMC_D15/U1_RI/T1_CAP3 (io), 79 P9_3/GPIO4[15]/MCOA0/USB1_IND1/ENET_RXD2/U3_TXD (io), 80 P5_4/GPIO2[13]/MCOB0/EMC_D8/U1_CTS/T1_MAT0 (io), 81 P5_5/GPIO2[14]/MCOA1/EMC_D9/U1_DCD/T1_MAT1 (io), 89 P5_6/GPIO2[15]/MCOB1/EMC_D10/U1_TXD/T1_MAT2 (io), 91 P5_7/GPIO2[7]/MCOA2/EMC_D11/U1_RXD/T1_MAT3 (io), 92 P9_4/MCOB0/USB1_IND0/GPIO5[17]/ENET_TXD2/U3_RXD (io), 98 P9_5/MCOA1/USB1_PPWR/GPIO5[18]/ENET_TXD3/U0_TXD (io), 103 P9_6/GPIO4[11]/MCOB1/USB1_PWR_FAULT/ENET_COL/U0_RXD (io), 105 P6_0/I2S0_RX_MCLK/I2S0_RX_SCK (io), 107 P6_1/GPIO3[0]/EMC_DYCS1/U0_UCLK/I2S0_RX_WS/T2_CAP0 (io), 111 P6_2/GPIO3[1]/EMC_CKEOUT1/U0_DIR/I2S0_RX_SDA/T2_CAP1 (io), 113 P6_3/GPIO3[2]/USB0_PPWR/~{EMC_CS1}/T2_CAP2 (io), 114 P6_4/GPIO3[3]/CTIN_6/U0_TXD/~{EMC_CAS} (io), 117 P6_5/GPIO3[4]/CTOUT_6/U0_RXD/~{EMC_RAS} (io), 119 P6_6/GPIO0[5]/~{EMC_BLS1}/USB0_PWR_FAULT/T2_CAP3 (io), 123 P6_7/EMC_A15/USB0_IND1/GPIO5[15]/T2_MAT0 (io), 125 P6_8/EMC_A14/USB0_IND0/GPIO5[16]/T2_MAT1 (io), 139 P6_9/GPIO3[5]/~{EMC_DYCS0}/T2_MAT2 (io), 142 P6_10/GPIO3[6]/MCABORT/EMC_DQMOUT1 (io), 143 P6_11/GPIO3[7]/EMC_CKEOUT0/T2_MAT3 (io), 145 P6_12/GPIO2[8]/CTOUT_7/EMC_DQMOUT0 (io), 158 P7_0/GPIO3[8]/CTOUT_14/LCD_LE (io), 162 P7_1/GPIO3[9]/CTOUT_15/I2S0_TX_WS/LCD_VD19/LCD_VD7/U2_TXD (io), 165 P7_2/GPIO3[10]/CTIN_4/I2S0_TX_SDA/LCD_VD18/LCD_VD6/U2_RXD (io), 167 P7_3/GPIO3[11]/CTIN_3/LCD_VD17/LCD_VD5 (io), 189 P7_4/GPIO3[12]/CTOUT_13/LCD_VD16/LCD_VD4/TRACEDATA[0]/ADC0_4 (io), 191 P7_5/GPIO3[13]/CTOUT_12/LCD_VD8/LCD_VD23/TRACEDATA[1]/ADC0_3 (io), 194 P7_6/GPIO3[14]/CTOUT_11/LCD_LP/TRACEDATA[2] (io), 201 P7_7/GPIO3[15]/CTOUT_8/LCD_PWR/TRACEDATA[3]/ENET_MDC/ADC1_6 (io)
part C pins: 7 PC_0/USB1_ULPI_CLK/ENET_RX_CLK/LCD_DCLK/SD_CLK/ADC1_1 (io), 9 PC_1/USB1_ULPI_D7/U1_RI/ENET_MDC/GPIO6[0]/T3_CAP0/SD_VOLT0 (io), 11 PC_3/USB1_ULPI_D5/U1_RTS/ENET_TXD3/GPIO6[2]/SD_VOLT1/ADC1_0 (io), 13 PC_2/USB1_ULPI_D6/U1_CTS/ENET_TXD2/GPIO6[1]/SD_RST (io), 16 PC_4/USB1_ULPI_D4/ENET_TX_EN/GPIO6[3]/T3_CAP1/SD_DAT0 (io), 20 PC_5/USB1_ULPI_D3/ENET_TX_ER/GPIO6[4]/T3_CAP2/SD_DAT1 (io), 22 PC_6/USB1_ULPI_D2/ENET_RXD2/GPIO6[5]/T3_CAP3/SD_DAT2 (io), 68 PD_6/CTOUT_10/EMC_D20/GPIO6[20] (io), 72 PD_7/CTIN_5/EMC_D21/GPIO6[21] (io), 74 PD_8/CTIN_6/EMC_D22/GPIO6[22] (io), 84 PD_9/CTOUT_13/EMC_D23/GPIO6[23] (io), 86 PD_10/CTIN_1/~{EMC_BLS3}/GPIO6[24] (io), 88 PD_11/~{EMC_CS3}/GPIO6[25]/USB1_ULPI_D0/CTOUT_14 (io), 94 PD_12/EMC_CS2/GPIO6[26]/CTOUT_10 (io), 97 PD_13/~{EMC_BLS2}/CTIN_0/GPIO6[27]/CTOUT_13 (io), 99 PD_14/~{EMC_DYCS2}/GPIO6[28]/CTOUT_11 (io), 101 PD_15/EMC_A17/GPIO6[29]/SD_WP/CTOUT_8 (io), 104 PD_16/EMC_A16/GPIO6[30]/SD_VOLT2/CTOUT_12 (io), 106 PE_0/EMC_A18/GPIO7[0]/CAN1_TD (io), 112 PE_1/EMC_A19/GPIO7[1]/CAN1_RD (io), 115 PE_2/ADCTRIG0/CAN0_RD/EMC_A20/GPIO7[2] (io), 118 PE_3/CAN0_TD/ADCTRIG1/EMC_A21/GPIO7[3] (io), 120 PE_4/NMI/EMC_A22/GPIO7[4] (io), 122 PE_5/CTOUT_3/U1_RTS/EMC_D24/GPIO7[5] (io), 124 PE_6/CTOUT_2/U1_RI/EMC_D25/GPIO7[6] (io), 126 PA_0/I2S1_RX_MCLK/CGU_OUT1 (io), 134 PA_1/GPIO4[8]/QEI_IDX/U2_TXD (io), 136 PA_2/GPIO4[9]/QEI_PHB/U2_RXD (io), 147 PA_3/GPIO4[10]/QEI_PHA (io), 149 PE_7/CTOUT_5/U1_CTS/EMC_D26/GPIO7[7] (io), 150 PE_8/CTOUT_4/U1_DSR/EMC_D27/GPIO7[8] (io), 151 PA_4/CTOUT_9/EMC_A23/GPIO5[19] (io), 152 PE_9/CTIN_4/U1_DCD/EMC_D28/GPIO7[9] (io), 154 PE_10/CTIN_3/U1_DTR/EMC_D29/GPIO7[10] (io), 159 PF_0/SSP0_SCK/GP_CLKIN/I2S1_TX_MCLK (io), 164 PB_0/CTOUT_10/LCD_VD23/GPIO5[20] (io), 168 PF_2/U3_TXD/SSP0_MISO/GPIO7[17] (io), 170 PF_3/U3_RXD/SSP0_MOSI/GPIO7[18] (io), 172 PF_4/SSP1_SCK/GP_CLKIN/TRACECLK/I2S0_TX_MCLK/I2S0_RX_SCK (io), 175 PB_1/USB1_ULPI_DIR/LCD_VD22/GPIO5[21]/CTOUT_6 (io), 177 PB_2/USB1_ULPI_D7/LCD_VD21/GPIO5[22]/CTOUT_7 (io), 178 PB_3/USB1_ULPI_D6/LCD_VD20/GPIO5[23]/CTOUT_8 (io), 180 PB_4/USB1_ULPI_D5/LCD_VD15/GPIO5[24]/CTIN_5 (io), 181 PB_5/USB1_ULPI_D4/LCD_VD14/GPIO5[25]/CTIN_7/LCD_PWR (io), 190 PF_5/U3_UCLK/SSP1_SSEL/TRACEDATA[0]/GPIO7[19]/ADC1_4 (io), 192 PF_6/U3_DIR/SSP1_MISO/TRACEDATA[1]/GPIO7[20]/I2S1_TX_SDA/ADC1_3 (io), 193 PF_7/U3_BAUD/SSP1_MOSI/TRACEDATA[2]/GPIO7[21]/I2S1_TX_WS/ADC1_7 (io), 203 PF_9/U0_DIR/CTOUT_1/GPIO7[23]/ADC1_2 (io), 205 PF_10/U0_TXD/GPIO7[24]/SD_WP/ADC0_5 (io), 207 PF_11/U0_RXD/GPIO7[25]/SD_VOLT2/ADC1_5 (io)
part D pins: 62 CLK0/EMC_CLK0/CLKOUT/SD_CLK/EMC_CLK01/SSP1_SCK/ENET_TX_CLK (ENET_REF_CLK) (io), 141 CLK2/EMC_CLK3/CLKOUT/SD_CLK/EMC_CLK23/I2S0_TX_MCLK/I2S1_RX_SCK (io)
part E pins: 4 ADC0_1/ADC1_1 (in), 8 ADC0_0/ADC1_0/DAC (in), 18 XTAL1, 19 XTAL2, 26 USB0_DP (io), 28 USB0_DM (io), 29 USB0_VBUS (power), 30 USB0_ID (in), 32 USB0_RREF (power), 35 TDI (in), 38 TCK/SWDCLK (in), 41 DBGEN (in), 42 ~{TRST} (in), 44 TMS/SWDIO (io), 46 TDO/SWO (out), 129 USB1_DP (io), 130 USB1_DM (io), 132 I2C0_SCL (io), 133 I2C0_SDA (io), 182 RTCX1 (in), 183 RTCX2 (out), 185 ~{RESET} (in), 186 RTC_ALARM (out), 187 WAKEUP0 (in), 197 ADC0_7/ADC1_7 (in), 199 ADC0_4/ADC1_4 (in), 200 ADC0_3/ADC1_3 (in), 204 ADC0_6/ADC1_6 (in), 206 ADC0_2/ADC1_2 (in), 208 ADC0_5/ADC1_5 (in)
part F pins: 5 VSSIO (power), 6 VDDIO (power), 24 USB0_VDDA3V3_DRIVER (power), 25 USB0_VDDA3V3 (power), 27 USB0_VSSA_TERM (power), 31 USB0_VSSA_REF (power), 33 VDDREG (power), 52 VDDIO (power), 56 VSSIO (power), 57 VDDIO (power), 82 VDDREG (power), 102 VDDIO (power), 109 VSSIO (power), 110 VDDIO (power), 135 VDDREG (power), 155 VDDIO (power), 157 VSSIO (power), 160 VDDIO (power), 184 VBAT (power), 188 VDDREG (power), 195 VDDREG (power), 196 VSSA (power), 198 VDDA (power), 202 VDDIO (power)

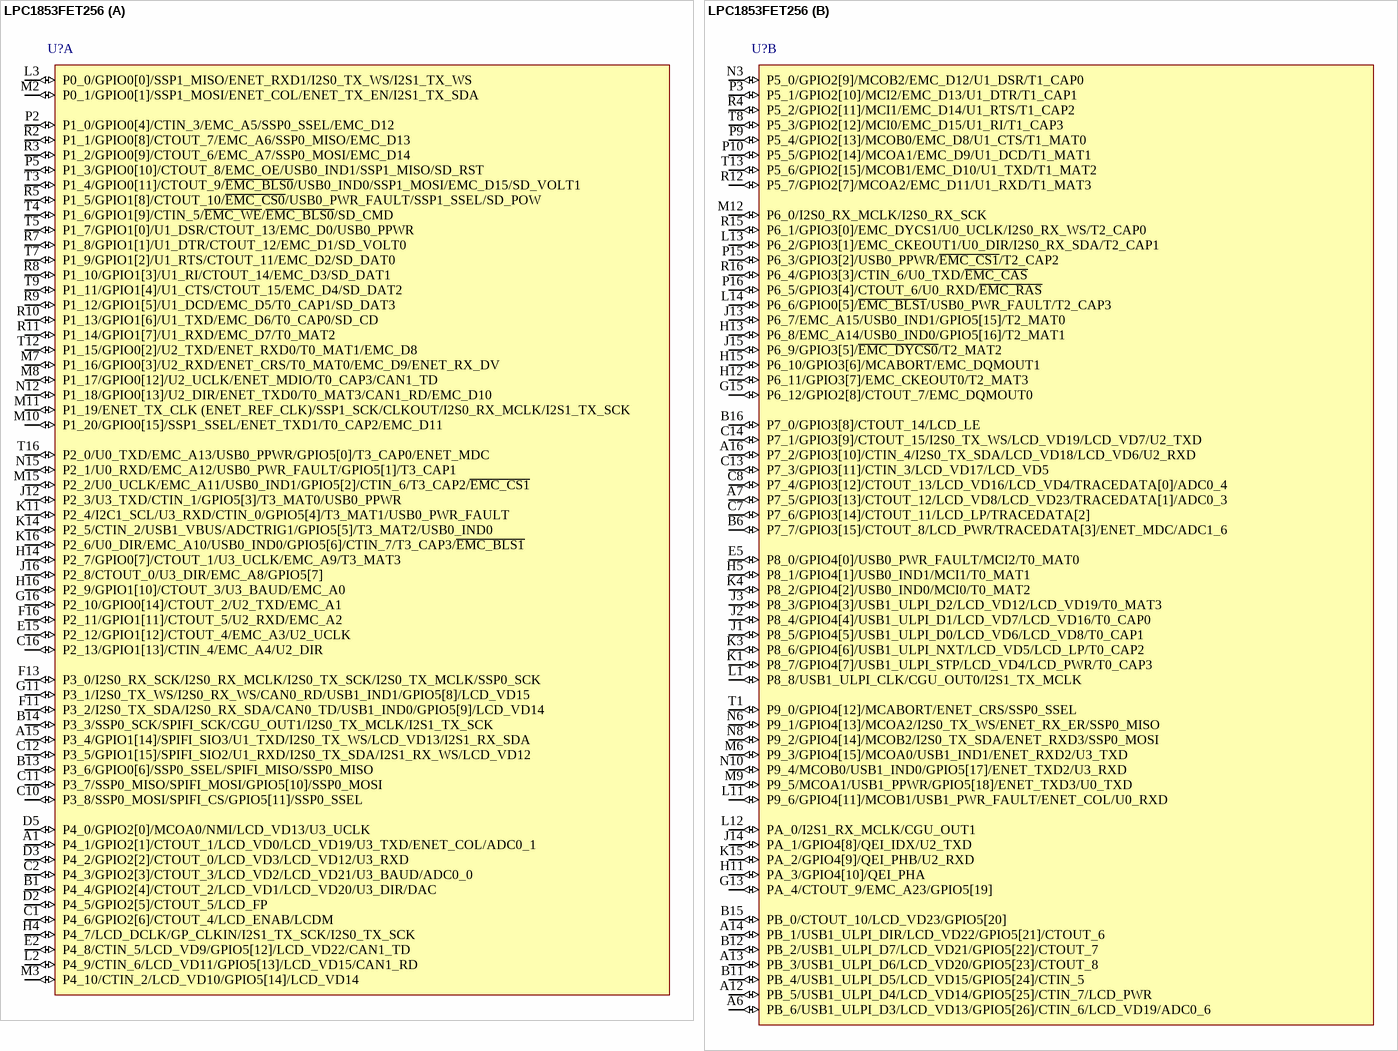
[diagram p41: symbol LPC1853FET256]

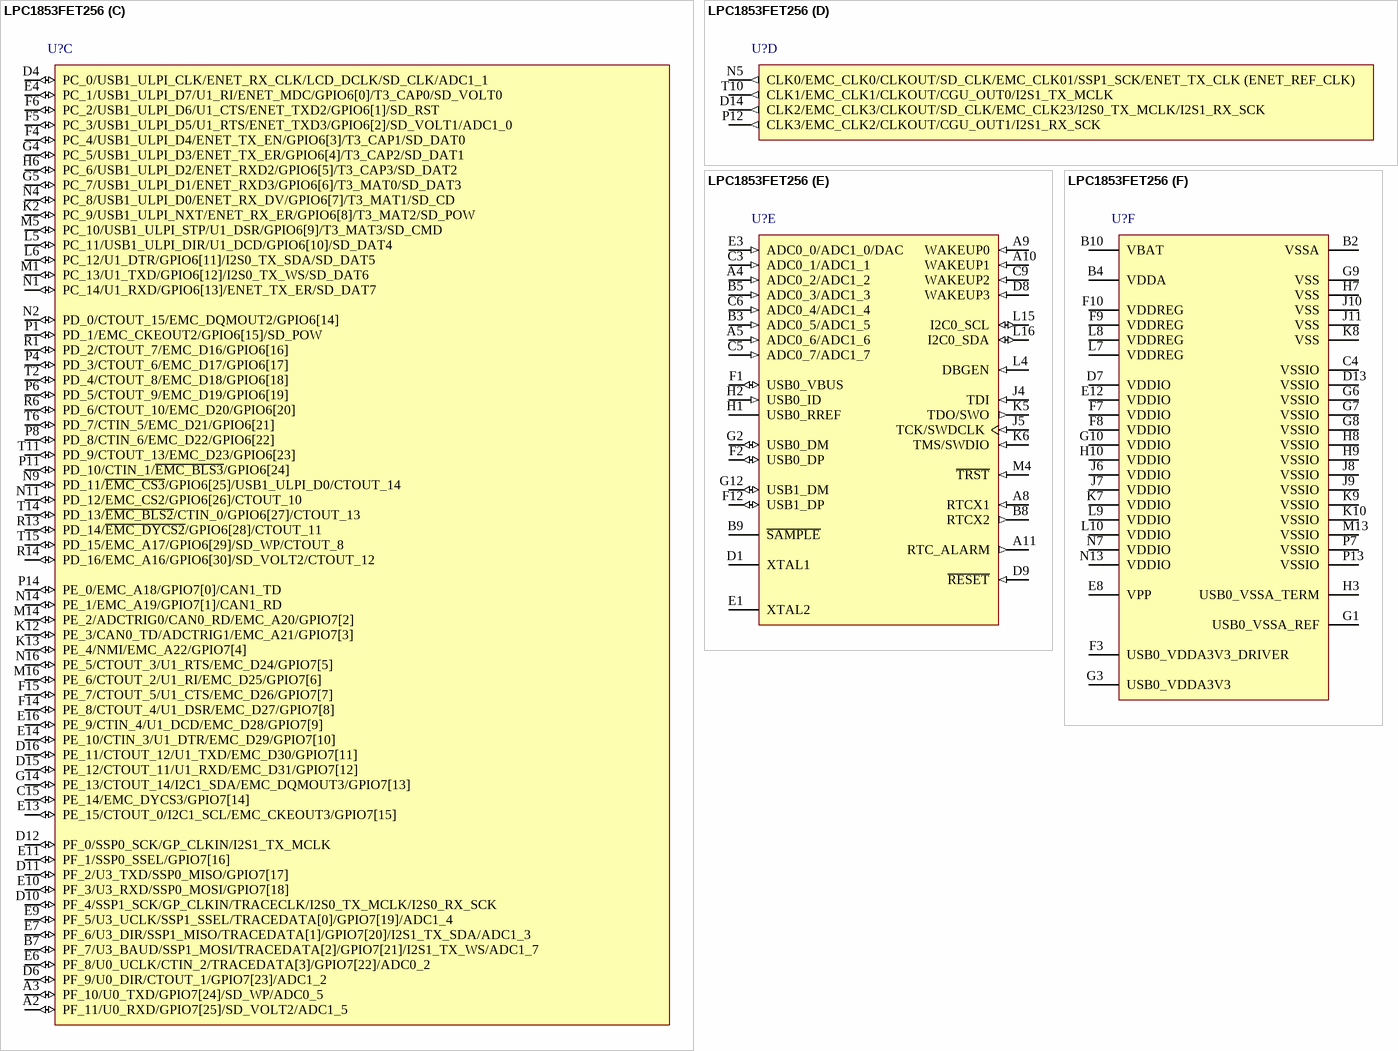
[diagram p42: symbol LPC1853FET256]